# Altium integrated library ST Memory EEPROM Flash.IntLib: 1183 symbols (part 19 of 23)
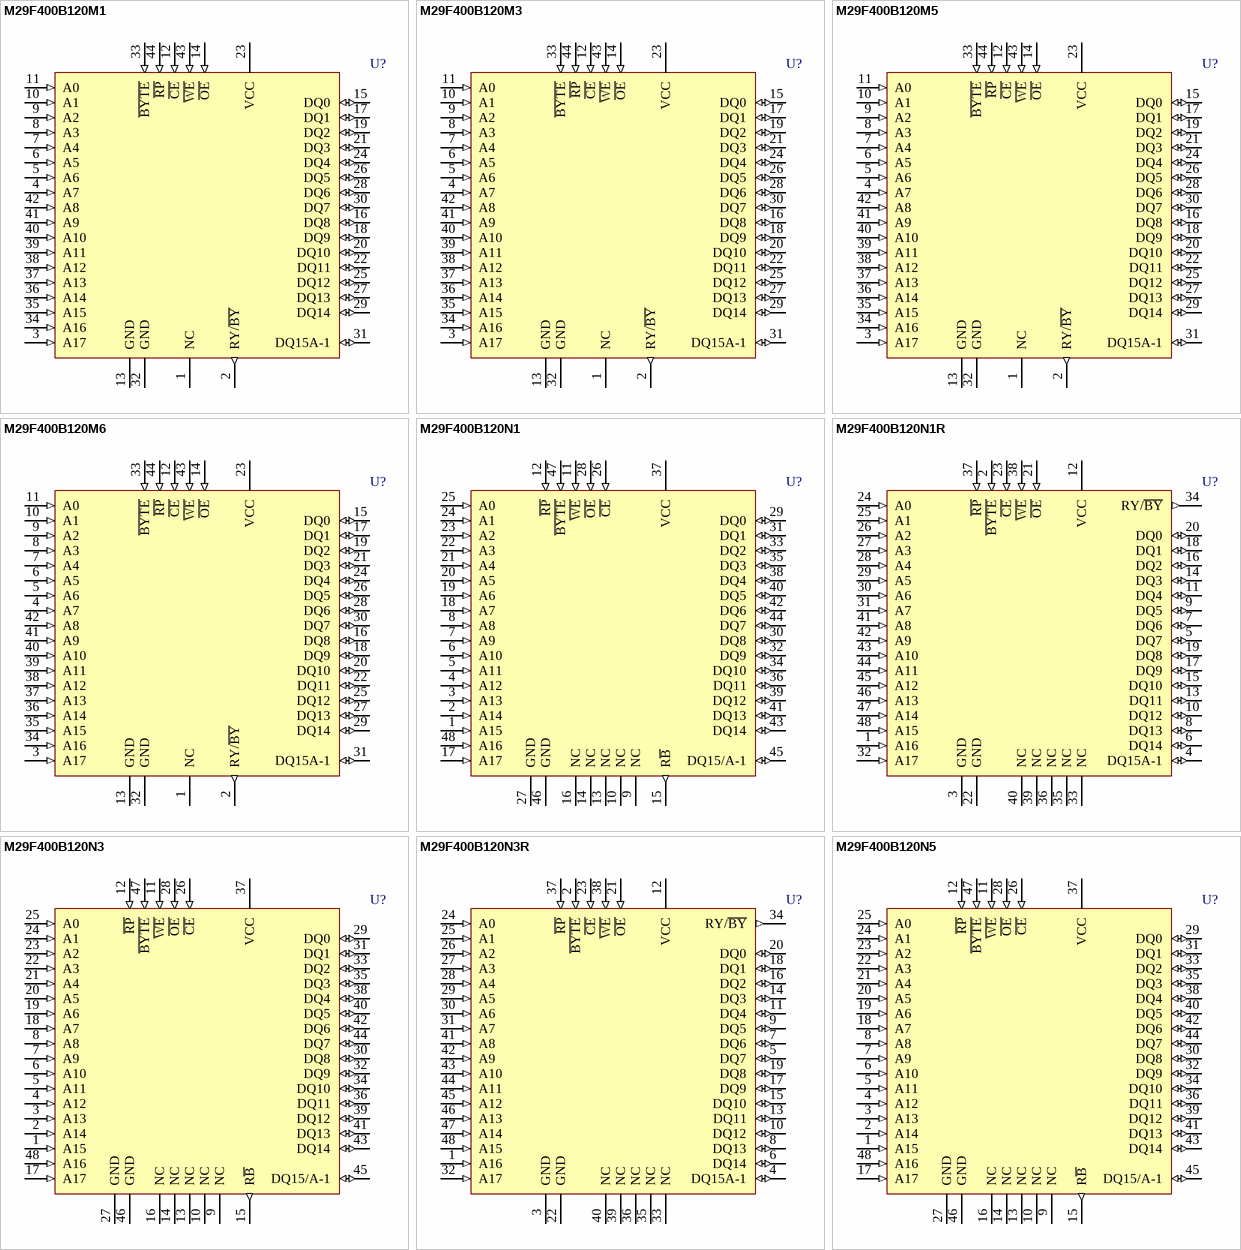
[diagram p99: symbols M29F400B120M1 to M29F400B120N5]

## M29F400B120M3
designator U?
4 Mbit (512Kb x8 or 256Kb x16, Boot Block) Single Supply Flash Memory; Published: 24-Aug-2001; LatestRevisionDate: 17-Jul-2002; LatestRevisionNote: Re-released for DXP Platform.; DatasheetDocument: Nov-1999; PackageReference: SO44; Publisher: Altium Limited
footprint SO44 (Small Outline, Plastic; 44 Leads; Body Width 13.3 mm; Pitch 1.27 mm)
pins: 1 NC, 2 RY/~{BY} (out), 3 A17 (in), 4 A7 (in), 5 A6 (in), 6 A5 (in), 7 A4 (in), 8 A3 (in), 9 A2 (in), 10 A1 (in), 11 A0 (in), 12 ~{CE} (in), 13 GND (power), 14 ~{OE} (in), 15 DQ0 (io), 16 DQ8 (io), 17 DQ1 (io), 18 DQ9 (io), 19 DQ2 (io), 20 DQ10 (io), 21 DQ3 (io), 22 DQ11 (io), 23 VCC (power), 24 DQ4 (io), 25 DQ12 (io), 26 DQ5 (io), 27 DQ13 (io), 28 DQ6 (io), 29 DQ14 (io), 30 DQ7 (io), 31 DQ15A-1 (io), 32 GND (power), 33 ~{BYTE} (in), 34 A16 (in), 35 A15 (in), 36 A14 (in), 37 A13 (in), 38 A12 (in), 39 A11 (in), 40 A10 (in), 41 A9 (in), 42 A8 (in), 43 ~{WE} (in), 44 ~{RP} (in)

## M29F400B120M5
designator U?
Single Supply 4 Mbit (x8/x16, Block Erase) Flash Memory; Published: 24-Aug-2001; LatestRevisionDate: 17-Jul-2002; LatestRevisionNote: Re-released for DXP Platform.; DatasheetDocument: Jul-1996; PackageReference: SO44; Publisher: Altium Limited
footprint SO44 (Small Outline, Plastic; 44 Leads; Body Width 13.3 mm; Pitch 1.27 mm)
pins: 1 NC, 2 RY/~{BY} (out), 3 A17 (in), 4 A7 (in), 5 A6 (in), 6 A5 (in), 7 A4 (in), 8 A3 (in), 9 A2 (in), 10 A1 (in), 11 A0 (in), 12 ~{CE} (in), 13 GND (power), 14 ~{OE} (in), 15 DQ0 (io), 16 DQ8 (io), 17 DQ1 (io), 18 DQ9 (io), 19 DQ2 (io), 20 DQ10 (io), 21 DQ3 (io), 22 DQ11 (io), 23 VCC (power), 24 DQ4 (io), 25 DQ12 (io), 26 DQ5 (io), 27 DQ13 (io), 28 DQ6 (io), 29 DQ14 (io), 30 DQ7 (io), 31 DQ15A-1 (io), 32 GND (power), 33 ~{BYTE} (in), 34 A16 (in), 35 A15 (in), 36 A14 (in), 37 A13 (in), 38 A12 (in), 39 A11 (in), 40 A10 (in), 41 A9 (in), 42 A8 (in), 43 ~{WE} (in), 44 ~{RP} (in)

## M29F400B120M6
designator U?
4 Mbit (512Kb x8 or 256Kb x16, Boot Block) Single Supply Flash Memory; Published: 24-Aug-2001; LatestRevisionDate: 17-Jul-2002; LatestRevisionNote: Re-released for DXP Platform.; DatasheetDocument: Nov-1999; PackageReference: SO44; Publisher: Altium Limited
footprint SO44 (Small Outline, Plastic; 44 Leads; Body Width 13.3 mm; Pitch 1.27 mm)
pins: 1 NC, 2 RY/~{BY} (out), 3 A17 (in), 4 A7 (in), 5 A6 (in), 6 A5 (in), 7 A4 (in), 8 A3 (in), 9 A2 (in), 10 A1 (in), 11 A0 (in), 12 ~{CE} (in), 13 GND (power), 14 ~{OE} (in), 15 DQ0 (io), 16 DQ8 (io), 17 DQ1 (io), 18 DQ9 (io), 19 DQ2 (io), 20 DQ10 (io), 21 DQ3 (io), 22 DQ11 (io), 23 VCC (power), 24 DQ4 (io), 25 DQ12 (io), 26 DQ5 (io), 27 DQ13 (io), 28 DQ6 (io), 29 DQ14 (io), 30 DQ7 (io), 31 DQ15A-1 (io), 32 GND (power), 33 ~{BYTE} (in), 34 A16 (in), 35 A15 (in), 36 A14 (in), 37 A13 (in), 38 A12 (in), 39 A11 (in), 40 A10 (in), 41 A9 (in), 42 A8 (in), 43 ~{WE} (in), 44 ~{RP} (in)

## M29F400B120N1
designator U?
4 Mbit (512Kb x8 or 256Kb x16, Boot Block) Single Supply Flash Memory; Published: 24-Aug-2001; LatestRevisionDate: 17-Jul-2002; LatestRevisionNote: Re-released for DXP Platform.; DatasheetDocument: Nov-1999; PackageDocument: Jul-1998; PackageReference: TSOP48; Publisher: Altium Limited; Code_JEDEC: MO-142-DD
footprint TSOP48 (Shrink Small Outline, Plastic, Thin; 48 Leads; Body Width 18.4 mm; Pitch 0.5 mm)
pins: 1 A15 (in), 2 A14 (in), 3 A13 (in), 4 A12 (in), 5 A11 (in), 6 A10 (in), 7 A9 (in), 8 A8 (in), 9 NC, 10 NC, 11 ~{WE} (in), 12 ~{RP} (in), 13 NC, 14 NC, 15 R~{B} (out), 16 NC, 17 A17 (in), 18 A7 (in), 19 A6 (in), 20 A5 (in), 21 A4 (in), 22 A3 (in), 23 A2 (in), 24 A1 (in), 25 A0 (in), 26 ~{CE} (in), 27 GND (power), 28 ~{OE} (in), 29 DQ0 (io), 30 DQ8 (io), 31 DQ1 (io), 32 DQ9 (io), 33 DQ2 (io), 34 DQ10 (io), 35 DQ3 (io), 36 DQ11 (io), 37 VCC (power), 38 DQ4 (io), 39 DQ12 (io), 40 DQ5 (io), 41 DQ13 (io), 42 DQ6 (io), 43 DQ14 (io), 44 DQ7 (io), 45 DQ15/A-1 (io), 46 GND (power), 47 ~{BYTE} (in), 48 A16 (in)

## M29F400B120N1R
designator U?
4 Mbit (512Kb x8 or 256Kb x16, Boot Block) Single Supply Flash Memory; Published: 24-Aug-2001; LatestRevisionDate: 17-Jul-2002; LatestRevisionNote: Re-released for DXP Platform.; DatasheetDocument: Nov-1999; PackageDocument: Jul-1998; PackageReference: TSOP48; Publisher: Altium Limited; Code_JEDEC: MO-142-DD
footprint TSOP48 (Shrink Small Outline, Plastic, Thin; 48 Leads; Body Width 18.4 mm; Pitch 0.5 mm)
pins: 1 A16 (in), 2 ~{BYTE} (in), 3 GND (power), 4 DQ15A-1 (io), 5 DQ7 (io), 6 DQ14 (io), 7 DQ6 (io), 8 DQ13 (io), 9 DQ5 (io), 10 DQ12 (io), 11 DQ4 (io), 12 VCC (power), 13 DQ11 (io), 14 DQ3 (io), 15 DQ10 (io), 16 DQ2 (io), 17 DQ9 (io), 18 DQ1 (io), 19 DQ8 (io), 20 DQ0 (io), 21 ~{OE} (in), 22 GND (power), 23 ~{CE} (in), 24 A0 (in), 25 A1 (in), 26 A2 (in), 27 A3 (in), 28 A4 (in), 29 A5 (in), 30 A6 (in), 31 A7 (in), 32 A17 (in), 33 NC, 34 RY/~{BY} (out), 35 NC, 36 NC, 37 ~{RP} (in), 38 ~{WE} (in), 39 NC, 40 NC, 41 A8 (in), 42 A9 (in), 43 A10 (in), 44 A11 (in), 45 A12 (in), 46 A13 (in), 47 A14 (in), 48 A15 (in)

## M29F400B120N3
designator U?
4 Mbit (512Kb x8 or 256Kb x16, Boot Block) Single Supply Flash Memory; Published: 24-Aug-2001; LatestRevisionDate: 17-Jul-2002; LatestRevisionNote: Re-released for DXP Platform.; DatasheetDocument: Nov-1999; PackageDocument: Jul-1998; PackageReference: TSOP48; Publisher: Altium Limited; Code_JEDEC: MO-142-DD
footprint TSOP48 (Shrink Small Outline, Plastic, Thin; 48 Leads; Body Width 18.4 mm; Pitch 0.5 mm)
pins: 1 A15 (in), 2 A14 (in), 3 A13 (in), 4 A12 (in), 5 A11 (in), 6 A10 (in), 7 A9 (in), 8 A8 (in), 9 NC, 10 NC, 11 ~{WE} (in), 12 ~{RP} (in), 13 NC, 14 NC, 15 R~{B} (out), 16 NC, 17 A17 (in), 18 A7 (in), 19 A6 (in), 20 A5 (in), 21 A4 (in), 22 A3 (in), 23 A2 (in), 24 A1 (in), 25 A0 (in), 26 ~{CE} (in), 27 GND (power), 28 ~{OE} (in), 29 DQ0 (io), 30 DQ8 (io), 31 DQ1 (io), 32 DQ9 (io), 33 DQ2 (io), 34 DQ10 (io), 35 DQ3 (io), 36 DQ11 (io), 37 VCC (power), 38 DQ4 (io), 39 DQ12 (io), 40 DQ5 (io), 41 DQ13 (io), 42 DQ6 (io), 43 DQ14 (io), 44 DQ7 (io), 45 DQ15/A-1 (io), 46 GND (power), 47 ~{BYTE} (in), 48 A16 (in)

## M29F400B120N3R
designator U?
4 Mbit (512Kb x8 or 256Kb x16, Boot Block) Single Supply Flash Memory; Published: 24-Aug-2001; LatestRevisionDate: 17-Jul-2002; LatestRevisionNote: Re-released for DXP Platform.; DatasheetDocument: Nov-1999; PackageDocument: Jul-1998; PackageReference: TSOP48; Publisher: Altium Limited; Code_JEDEC: MO-142-DD
footprint TSOP48 (Shrink Small Outline, Plastic, Thin; 48 Leads; Body Width 18.4 mm; Pitch 0.5 mm)
pins: 1 A16 (in), 2 ~{BYTE} (in), 3 GND (power), 4 DQ15A-1 (io), 5 DQ7 (io), 6 DQ14 (io), 7 DQ6 (io), 8 DQ13 (io), 9 DQ5 (io), 10 DQ12 (io), 11 DQ4 (io), 12 VCC (power), 13 DQ11 (io), 14 DQ3 (io), 15 DQ10 (io), 16 DQ2 (io), 17 DQ9 (io), 18 DQ1 (io), 19 DQ8 (io), 20 DQ0 (io), 21 ~{OE} (in), 22 GND (power), 23 ~{CE} (in), 24 A0 (in), 25 A1 (in), 26 A2 (in), 27 A3 (in), 28 A4 (in), 29 A5 (in), 30 A6 (in), 31 A7 (in), 32 A17 (in), 33 NC, 34 RY/~{BY} (out), 35 NC, 36 NC, 37 ~{RP} (in), 38 ~{WE} (in), 39 NC, 40 NC, 41 A8 (in), 42 A9 (in), 43 A10 (in), 44 A11 (in), 45 A12 (in), 46 A13 (in), 47 A14 (in), 48 A15 (in)

## M29F400B120N5
designator U?
Single Supply 4 Mbit (x8/x16, Block Erase) Flash Memory; Published: 24-Aug-2001; LatestRevisionDate: 17-Jul-2002; LatestRevisionNote: Re-released for DXP Platform.; DatasheetDocument: Jul-1996; PackageDocument: Jul-1998; PackageReference: TSOP48; Publisher: Altium Limited; Code_JEDEC: MO-142-DD
footprint TSOP48 (Shrink Small Outline, Plastic, Thin; 48 Leads; Body Width 18.4 mm; Pitch 0.5 mm)
pins: 1 A15 (in), 2 A14 (in), 3 A13 (in), 4 A12 (in), 5 A11 (in), 6 A10 (in), 7 A9 (in), 8 A8 (in), 9 NC, 10 NC, 11 ~{WE} (in), 12 ~{RP} (in), 13 NC, 14 NC, 15 R~{B} (out), 16 NC, 17 A17 (in), 18 A7 (in), 19 A6 (in), 20 A5 (in), 21 A4 (in), 22 A3 (in), 23 A2 (in), 24 A1 (in), 25 A0 (in), 26 ~{CE} (in), 27 GND (power), 28 ~{OE} (in), 29 DQ0 (io), 30 DQ8 (io), 31 DQ1 (io), 32 DQ9 (io), 33 DQ2 (io), 34 DQ10 (io), 35 DQ3 (io), 36 DQ11 (io), 37 VCC (power), 38 DQ4 (io), 39 DQ12 (io), 40 DQ5 (io), 41 DQ13 (io), 42 DQ6 (io), 43 DQ14 (io), 44 DQ7 (io), 45 DQ15/A-1 (io), 46 GND (power), 47 ~{BYTE} (in), 48 A16 (in)

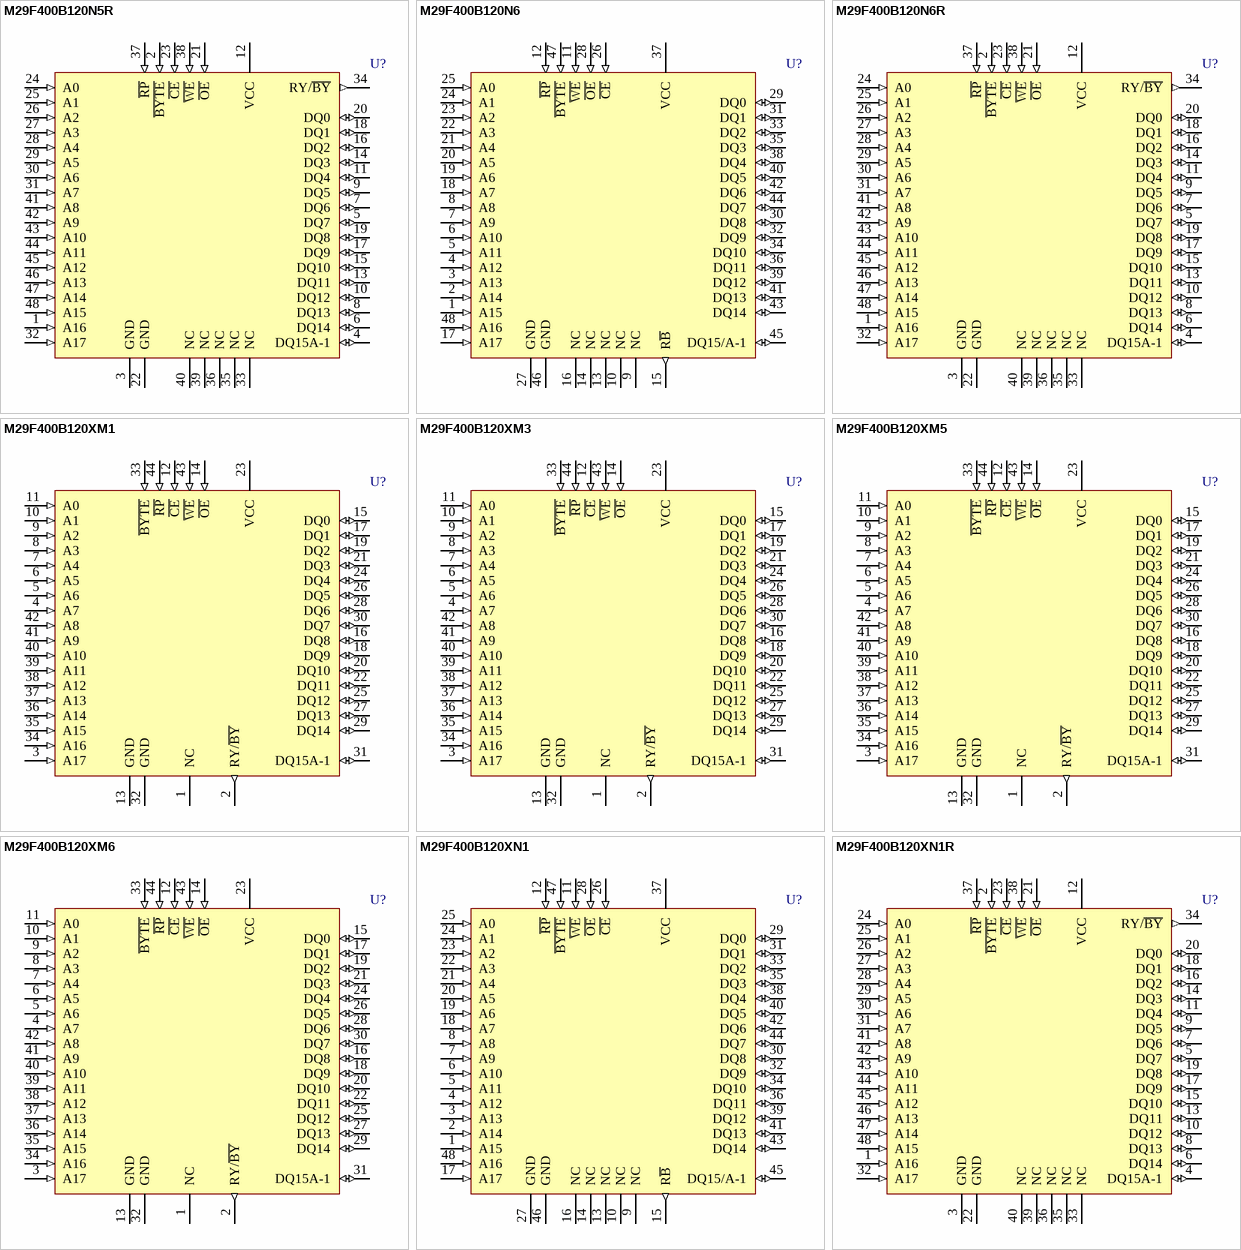
[diagram p64: symbols M29F400B120N5R to M29F400B120XN1R]

## M29F400B120N5R
designator U?
Single Supply 4 Mbit (x8/x16, Block Erase) Flash Memory; Published: 24-Aug-2001; LatestRevisionDate: 17-Jul-2002; LatestRevisionNote: Re-released for DXP Platform.; DatasheetDocument: Jul-1996; PackageDocument: Jul-1998; PackageReference: TSOP48; Publisher: Altium Limited; Code_JEDEC: MO-142-DD
footprint TSOP48 (Shrink Small Outline, Plastic, Thin; 48 Leads; Body Width 18.4 mm; Pitch 0.5 mm)
pins: 1 A16 (in), 2 ~{BYTE} (in), 3 GND (power), 4 DQ15A-1 (io), 5 DQ7 (io), 6 DQ14 (io), 7 DQ6 (io), 8 DQ13 (io), 9 DQ5 (io), 10 DQ12 (io), 11 DQ4 (io), 12 VCC (power), 13 DQ11 (io), 14 DQ3 (io), 15 DQ10 (io), 16 DQ2 (io), 17 DQ9 (io), 18 DQ1 (io), 19 DQ8 (io), 20 DQ0 (io), 21 ~{OE} (in), 22 GND (power), 23 ~{CE} (in), 24 A0 (in), 25 A1 (in), 26 A2 (in), 27 A3 (in), 28 A4 (in), 29 A5 (in), 30 A6 (in), 31 A7 (in), 32 A17 (in), 33 NC, 34 RY/~{BY} (out), 35 NC, 36 NC, 37 ~{RP} (in), 38 ~{WE} (in), 39 NC, 40 NC, 41 A8 (in), 42 A9 (in), 43 A10 (in), 44 A11 (in), 45 A12 (in), 46 A13 (in), 47 A14 (in), 48 A15 (in)

## M29F400B120N6
designator U?
4 Mbit (512Kb x8 or 256Kb x16, Boot Block) Single Supply Flash Memory; Published: 24-Aug-2001; LatestRevisionDate: 17-Jul-2002; LatestRevisionNote: Re-released for DXP Platform.; DatasheetDocument: Nov-1999; PackageDocument: Jul-1998; PackageReference: TSOP48; Publisher: Altium Limited; Code_JEDEC: MO-142-DD
footprint TSOP48 (Shrink Small Outline, Plastic, Thin; 48 Leads; Body Width 18.4 mm; Pitch 0.5 mm)
pins: 1 A15 (in), 2 A14 (in), 3 A13 (in), 4 A12 (in), 5 A11 (in), 6 A10 (in), 7 A9 (in), 8 A8 (in), 9 NC, 10 NC, 11 ~{WE} (in), 12 ~{RP} (in), 13 NC, 14 NC, 15 R~{B} (out), 16 NC, 17 A17 (in), 18 A7 (in), 19 A6 (in), 20 A5 (in), 21 A4 (in), 22 A3 (in), 23 A2 (in), 24 A1 (in), 25 A0 (in), 26 ~{CE} (in), 27 GND (power), 28 ~{OE} (in), 29 DQ0 (io), 30 DQ8 (io), 31 DQ1 (io), 32 DQ9 (io), 33 DQ2 (io), 34 DQ10 (io), 35 DQ3 (io), 36 DQ11 (io), 37 VCC (power), 38 DQ4 (io), 39 DQ12 (io), 40 DQ5 (io), 41 DQ13 (io), 42 DQ6 (io), 43 DQ14 (io), 44 DQ7 (io), 45 DQ15/A-1 (io), 46 GND (power), 47 ~{BYTE} (in), 48 A16 (in)

## M29F400B120N6R
designator U?
4 Mbit (512Kb x8 or 256Kb x16, Boot Block) Single Supply Flash Memory; Published: 24-Aug-2001; LatestRevisionDate: 17-Jul-2002; LatestRevisionNote: Re-released for DXP Platform.; DatasheetDocument: Nov-1999; PackageDocument: Jul-1998; PackageReference: TSOP48; Publisher: Altium Limited; Code_JEDEC: MO-142-DD
footprint TSOP48 (Shrink Small Outline, Plastic, Thin; 48 Leads; Body Width 18.4 mm; Pitch 0.5 mm)
pins: 1 A16 (in), 2 ~{BYTE} (in), 3 GND (power), 4 DQ15A-1 (io), 5 DQ7 (io), 6 DQ14 (io), 7 DQ6 (io), 8 DQ13 (io), 9 DQ5 (io), 10 DQ12 (io), 11 DQ4 (io), 12 VCC (power), 13 DQ11 (io), 14 DQ3 (io), 15 DQ10 (io), 16 DQ2 (io), 17 DQ9 (io), 18 DQ1 (io), 19 DQ8 (io), 20 DQ0 (io), 21 ~{OE} (in), 22 GND (power), 23 ~{CE} (in), 24 A0 (in), 25 A1 (in), 26 A2 (in), 27 A3 (in), 28 A4 (in), 29 A5 (in), 30 A6 (in), 31 A7 (in), 32 A17 (in), 33 NC, 34 RY/~{BY} (out), 35 NC, 36 NC, 37 ~{RP} (in), 38 ~{WE} (in), 39 NC, 40 NC, 41 A8 (in), 42 A9 (in), 43 A10 (in), 44 A11 (in), 45 A12 (in), 46 A13 (in), 47 A14 (in), 48 A15 (in)

## M29F400B120XM1
designator U?
Single Supply 4 Mbit (x8/x16, Block Erase) Flash Memory; Published: 24-Aug-2001; LatestRevisionDate: 17-Jul-2002; LatestRevisionNote: Re-released for DXP Platform.; DatasheetDocument: Jul-1996; PackageReference: SO44; Publisher: Altium Limited
footprint SO44 (Small Outline, Plastic; 44 Leads; Body Width 13.3 mm; Pitch 1.27 mm)
pins: 1 NC, 2 RY/~{BY} (out), 3 A17 (in), 4 A7 (in), 5 A6 (in), 6 A5 (in), 7 A4 (in), 8 A3 (in), 9 A2 (in), 10 A1 (in), 11 A0 (in), 12 ~{CE} (in), 13 GND (power), 14 ~{OE} (in), 15 DQ0 (io), 16 DQ8 (io), 17 DQ1 (io), 18 DQ9 (io), 19 DQ2 (io), 20 DQ10 (io), 21 DQ3 (io), 22 DQ11 (io), 23 VCC (power), 24 DQ4 (io), 25 DQ12 (io), 26 DQ5 (io), 27 DQ13 (io), 28 DQ6 (io), 29 DQ14 (io), 30 DQ7 (io), 31 DQ15A-1 (io), 32 GND (power), 33 ~{BYTE} (in), 34 A16 (in), 35 A15 (in), 36 A14 (in), 37 A13 (in), 38 A12 (in), 39 A11 (in), 40 A10 (in), 41 A9 (in), 42 A8 (in), 43 ~{WE} (in), 44 ~{RP} (in)

## M29F400B120XM3
designator U?
Single Supply 4 Mbit (x8/x16, Block Erase) Flash Memory; Published: 24-Aug-2001; LatestRevisionDate: 17-Jul-2002; LatestRevisionNote: Re-released for DXP Platform.; DatasheetDocument: Jul-1996; PackageReference: SO44; Publisher: Altium Limited
footprint SO44 (Small Outline, Plastic; 44 Leads; Body Width 13.3 mm; Pitch 1.27 mm)
pins: 1 NC, 2 RY/~{BY} (out), 3 A17 (in), 4 A7 (in), 5 A6 (in), 6 A5 (in), 7 A4 (in), 8 A3 (in), 9 A2 (in), 10 A1 (in), 11 A0 (in), 12 ~{CE} (in), 13 GND (power), 14 ~{OE} (in), 15 DQ0 (io), 16 DQ8 (io), 17 DQ1 (io), 18 DQ9 (io), 19 DQ2 (io), 20 DQ10 (io), 21 DQ3 (io), 22 DQ11 (io), 23 VCC (power), 24 DQ4 (io), 25 DQ12 (io), 26 DQ5 (io), 27 DQ13 (io), 28 DQ6 (io), 29 DQ14 (io), 30 DQ7 (io), 31 DQ15A-1 (io), 32 GND (power), 33 ~{BYTE} (in), 34 A16 (in), 35 A15 (in), 36 A14 (in), 37 A13 (in), 38 A12 (in), 39 A11 (in), 40 A10 (in), 41 A9 (in), 42 A8 (in), 43 ~{WE} (in), 44 ~{RP} (in)

## M29F400B120XM5
designator U?
Single Supply 4 Mbit (x8/x16, Block Erase) Flash Memory; Published: 24-Aug-2001; LatestRevisionDate: 17-Jul-2002; LatestRevisionNote: Re-released for DXP Platform.; DatasheetDocument: Jul-1996; PackageReference: SO44; Publisher: Altium Limited
footprint SO44 (Small Outline, Plastic; 44 Leads; Body Width 13.3 mm; Pitch 1.27 mm)
pins: 1 NC, 2 RY/~{BY} (out), 3 A17 (in), 4 A7 (in), 5 A6 (in), 6 A5 (in), 7 A4 (in), 8 A3 (in), 9 A2 (in), 10 A1 (in), 11 A0 (in), 12 ~{CE} (in), 13 GND (power), 14 ~{OE} (in), 15 DQ0 (io), 16 DQ8 (io), 17 DQ1 (io), 18 DQ9 (io), 19 DQ2 (io), 20 DQ10 (io), 21 DQ3 (io), 22 DQ11 (io), 23 VCC (power), 24 DQ4 (io), 25 DQ12 (io), 26 DQ5 (io), 27 DQ13 (io), 28 DQ6 (io), 29 DQ14 (io), 30 DQ7 (io), 31 DQ15A-1 (io), 32 GND (power), 33 ~{BYTE} (in), 34 A16 (in), 35 A15 (in), 36 A14 (in), 37 A13 (in), 38 A12 (in), 39 A11 (in), 40 A10 (in), 41 A9 (in), 42 A8 (in), 43 ~{WE} (in), 44 ~{RP} (in)

## M29F400B120XM6
designator U?
Single Supply 4 Mbit (x8/x16, Block Erase) Flash Memory; Published: 24-Aug-2001; LatestRevisionDate: 17-Jul-2002; LatestRevisionNote: Re-released for DXP Platform.; DatasheetDocument: Jul-1996; PackageReference: SO44; Publisher: Altium Limited
footprint SO44 (Small Outline, Plastic; 44 Leads; Body Width 13.3 mm; Pitch 1.27 mm)
pins: 1 NC, 2 RY/~{BY} (out), 3 A17 (in), 4 A7 (in), 5 A6 (in), 6 A5 (in), 7 A4 (in), 8 A3 (in), 9 A2 (in), 10 A1 (in), 11 A0 (in), 12 ~{CE} (in), 13 GND (power), 14 ~{OE} (in), 15 DQ0 (io), 16 DQ8 (io), 17 DQ1 (io), 18 DQ9 (io), 19 DQ2 (io), 20 DQ10 (io), 21 DQ3 (io), 22 DQ11 (io), 23 VCC (power), 24 DQ4 (io), 25 DQ12 (io), 26 DQ5 (io), 27 DQ13 (io), 28 DQ6 (io), 29 DQ14 (io), 30 DQ7 (io), 31 DQ15A-1 (io), 32 GND (power), 33 ~{BYTE} (in), 34 A16 (in), 35 A15 (in), 36 A14 (in), 37 A13 (in), 38 A12 (in), 39 A11 (in), 40 A10 (in), 41 A9 (in), 42 A8 (in), 43 ~{WE} (in), 44 ~{RP} (in)

## M29F400B120XN1
designator U?
Single Supply 4 Mbit (x8/x16, Block Erase) Flash Memory; Published: 24-Aug-2001; LatestRevisionDate: 17-Jul-2002; LatestRevisionNote: Re-released for DXP Platform.; DatasheetDocument: Jul-1996; PackageDocument: Jul-1998; PackageReference: TSOP48; Publisher: Altium Limited; Code_JEDEC: MO-142-DD
footprint TSOP48 (Shrink Small Outline, Plastic, Thin; 48 Leads; Body Width 18.4 mm; Pitch 0.5 mm)
pins: 1 A15 (in), 2 A14 (in), 3 A13 (in), 4 A12 (in), 5 A11 (in), 6 A10 (in), 7 A9 (in), 8 A8 (in), 9 NC, 10 NC, 11 ~{WE} (in), 12 ~{RP} (in), 13 NC, 14 NC, 15 R~{B} (out), 16 NC, 17 A17 (in), 18 A7 (in), 19 A6 (in), 20 A5 (in), 21 A4 (in), 22 A3 (in), 23 A2 (in), 24 A1 (in), 25 A0 (in), 26 ~{CE} (in), 27 GND (power), 28 ~{OE} (in), 29 DQ0 (io), 30 DQ8 (io), 31 DQ1 (io), 32 DQ9 (io), 33 DQ2 (io), 34 DQ10 (io), 35 DQ3 (io), 36 DQ11 (io), 37 VCC (power), 38 DQ4 (io), 39 DQ12 (io), 40 DQ5 (io), 41 DQ13 (io), 42 DQ6 (io), 43 DQ14 (io), 44 DQ7 (io), 45 DQ15/A-1 (io), 46 GND (power), 47 ~{BYTE} (in), 48 A16 (in)

## M29F400B120XN1R
designator U?
Single Supply 4 Mbit (x8/x16, Block Erase) Flash Memory; Published: 24-Aug-2001; LatestRevisionDate: 17-Jul-2002; LatestRevisionNote: Re-released for DXP Platform.; DatasheetDocument: Jul-1996; PackageDocument: Jul-1998; PackageReference: TSOP48; Publisher: Altium Limited; Code_JEDEC: MO-142-DD
footprint TSOP48 (Shrink Small Outline, Plastic, Thin; 48 Leads; Body Width 18.4 mm; Pitch 0.5 mm)
pins: 1 A16 (in), 2 ~{BYTE} (in), 3 GND (power), 4 DQ15A-1 (io), 5 DQ7 (io), 6 DQ14 (io), 7 DQ6 (io), 8 DQ13 (io), 9 DQ5 (io), 10 DQ12 (io), 11 DQ4 (io), 12 VCC (power), 13 DQ11 (io), 14 DQ3 (io), 15 DQ10 (io), 16 DQ2 (io), 17 DQ9 (io), 18 DQ1 (io), 19 DQ8 (io), 20 DQ0 (io), 21 ~{OE} (in), 22 GND (power), 23 ~{CE} (in), 24 A0 (in), 25 A1 (in), 26 A2 (in), 27 A3 (in), 28 A4 (in), 29 A5 (in), 30 A6 (in), 31 A7 (in), 32 A17 (in), 33 NC, 34 RY/~{BY} (out), 35 NC, 36 NC, 37 ~{RP} (in), 38 ~{WE} (in), 39 NC, 40 NC, 41 A8 (in), 42 A9 (in), 43 A10 (in), 44 A11 (in), 45 A12 (in), 46 A13 (in), 47 A14 (in), 48 A15 (in)

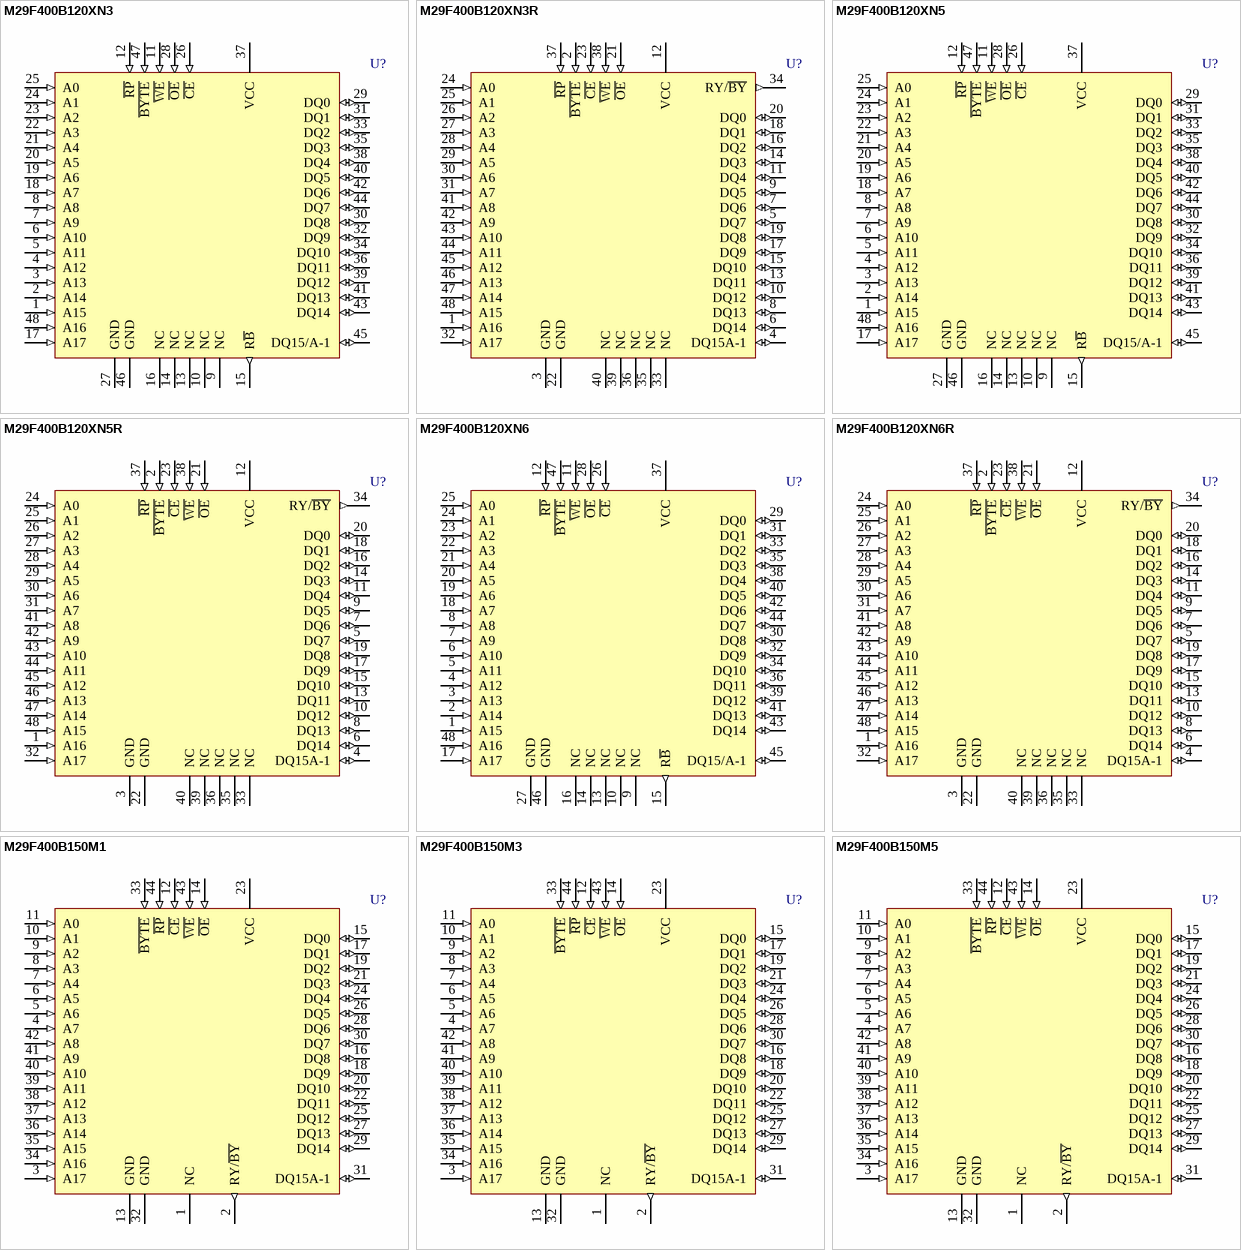
[diagram p65: symbols M29F400B120XN3 to M29F400B150M5]

## M29F400B120XN3
designator U?
Single Supply 4 Mbit (x8/x16, Block Erase) Flash Memory; Published: 24-Aug-2001; LatestRevisionDate: 17-Jul-2002; LatestRevisionNote: Re-released for DXP Platform.; DatasheetDocument: Jul-1996; PackageDocument: Jul-1998; PackageReference: TSOP48; Publisher: Altium Limited; Code_JEDEC: MO-142-DD
footprint TSOP48 (Shrink Small Outline, Plastic, Thin; 48 Leads; Body Width 18.4 mm; Pitch 0.5 mm)
pins: 1 A15 (in), 2 A14 (in), 3 A13 (in), 4 A12 (in), 5 A11 (in), 6 A10 (in), 7 A9 (in), 8 A8 (in), 9 NC, 10 NC, 11 ~{WE} (in), 12 ~{RP} (in), 13 NC, 14 NC, 15 R~{B} (out), 16 NC, 17 A17 (in), 18 A7 (in), 19 A6 (in), 20 A5 (in), 21 A4 (in), 22 A3 (in), 23 A2 (in), 24 A1 (in), 25 A0 (in), 26 ~{CE} (in), 27 GND (power), 28 ~{OE} (in), 29 DQ0 (io), 30 DQ8 (io), 31 DQ1 (io), 32 DQ9 (io), 33 DQ2 (io), 34 DQ10 (io), 35 DQ3 (io), 36 DQ11 (io), 37 VCC (power), 38 DQ4 (io), 39 DQ12 (io), 40 DQ5 (io), 41 DQ13 (io), 42 DQ6 (io), 43 DQ14 (io), 44 DQ7 (io), 45 DQ15/A-1 (io), 46 GND (power), 47 ~{BYTE} (in), 48 A16 (in)

## M29F400B120XN3R
designator U?
Single Supply 4 Mbit (x8/x16, Block Erase) Flash Memory; Published: 24-Aug-2001; LatestRevisionDate: 17-Jul-2002; LatestRevisionNote: Re-released for DXP Platform.; DatasheetDocument: Jul-1996; PackageDocument: Jul-1998; PackageReference: TSOP48; Publisher: Altium Limited; Code_JEDEC: MO-142-DD
footprint TSOP48 (Shrink Small Outline, Plastic, Thin; 48 Leads; Body Width 18.4 mm; Pitch 0.5 mm)
pins: 1 A16 (in), 2 ~{BYTE} (in), 3 GND (power), 4 DQ15A-1 (io), 5 DQ7 (io), 6 DQ14 (io), 7 DQ6 (io), 8 DQ13 (io), 9 DQ5 (io), 10 DQ12 (io), 11 DQ4 (io), 12 VCC (power), 13 DQ11 (io), 14 DQ3 (io), 15 DQ10 (io), 16 DQ2 (io), 17 DQ9 (io), 18 DQ1 (io), 19 DQ8 (io), 20 DQ0 (io), 21 ~{OE} (in), 22 GND (power), 23 ~{CE} (in), 24 A0 (in), 25 A1 (in), 26 A2 (in), 27 A3 (in), 28 A4 (in), 29 A5 (in), 30 A6 (in), 31 A7 (in), 32 A17 (in), 33 NC, 34 RY/~{BY} (out), 35 NC, 36 NC, 37 ~{RP} (in), 38 ~{WE} (in), 39 NC, 40 NC, 41 A8 (in), 42 A9 (in), 43 A10 (in), 44 A11 (in), 45 A12 (in), 46 A13 (in), 47 A14 (in), 48 A15 (in)

## M29F400B120XN5
designator U?
Single Supply 4 Mbit (x8/x16, Block Erase) Flash Memory; Published: 24-Aug-2001; LatestRevisionDate: 17-Jul-2002; LatestRevisionNote: Re-released for DXP Platform.; DatasheetDocument: Jul-1996; PackageDocument: Jul-1998; PackageReference: TSOP48; Publisher: Altium Limited; Code_JEDEC: MO-142-DD
footprint TSOP48 (Shrink Small Outline, Plastic, Thin; 48 Leads; Body Width 18.4 mm; Pitch 0.5 mm)
pins: 1 A15 (in), 2 A14 (in), 3 A13 (in), 4 A12 (in), 5 A11 (in), 6 A10 (in), 7 A9 (in), 8 A8 (in), 9 NC, 10 NC, 11 ~{WE} (in), 12 ~{RP} (in), 13 NC, 14 NC, 15 R~{B} (out), 16 NC, 17 A17 (in), 18 A7 (in), 19 A6 (in), 20 A5 (in), 21 A4 (in), 22 A3 (in), 23 A2 (in), 24 A1 (in), 25 A0 (in), 26 ~{CE} (in), 27 GND (power), 28 ~{OE} (in), 29 DQ0 (io), 30 DQ8 (io), 31 DQ1 (io), 32 DQ9 (io), 33 DQ2 (io), 34 DQ10 (io), 35 DQ3 (io), 36 DQ11 (io), 37 VCC (power), 38 DQ4 (io), 39 DQ12 (io), 40 DQ5 (io), 41 DQ13 (io), 42 DQ6 (io), 43 DQ14 (io), 44 DQ7 (io), 45 DQ15/A-1 (io), 46 GND (power), 47 ~{BYTE} (in), 48 A16 (in)

## M29F400B120XN5R
designator U?
Single Supply 4 Mbit (x8/x16, Block Erase) Flash Memory; Published: 24-Aug-2001; LatestRevisionDate: 17-Jul-2002; LatestRevisionNote: Re-released for DXP Platform.; DatasheetDocument: Jul-1996; PackageDocument: Jul-1998; PackageReference: TSOP48; Publisher: Altium Limited; Code_JEDEC: MO-142-DD
footprint TSOP48 (Shrink Small Outline, Plastic, Thin; 48 Leads; Body Width 18.4 mm; Pitch 0.5 mm)
pins: 1 A16 (in), 2 ~{BYTE} (in), 3 GND (power), 4 DQ15A-1 (io), 5 DQ7 (io), 6 DQ14 (io), 7 DQ6 (io), 8 DQ13 (io), 9 DQ5 (io), 10 DQ12 (io), 11 DQ4 (io), 12 VCC (power), 13 DQ11 (io), 14 DQ3 (io), 15 DQ10 (io), 16 DQ2 (io), 17 DQ9 (io), 18 DQ1 (io), 19 DQ8 (io), 20 DQ0 (io), 21 ~{OE} (in), 22 GND (power), 23 ~{CE} (in), 24 A0 (in), 25 A1 (in), 26 A2 (in), 27 A3 (in), 28 A4 (in), 29 A5 (in), 30 A6 (in), 31 A7 (in), 32 A17 (in), 33 NC, 34 RY/~{BY} (out), 35 NC, 36 NC, 37 ~{RP} (in), 38 ~{WE} (in), 39 NC, 40 NC, 41 A8 (in), 42 A9 (in), 43 A10 (in), 44 A11 (in), 45 A12 (in), 46 A13 (in), 47 A14 (in), 48 A15 (in)

## M29F400B120XN6
designator U?
Single Supply 4 Mbit (x8/x16, Block Erase) Flash Memory; Published: 24-Aug-2001; LatestRevisionDate: 17-Jul-2002; LatestRevisionNote: Re-released for DXP Platform.; DatasheetDocument: Jul-1996; PackageDocument: Jul-1998; PackageReference: TSOP48; Publisher: Altium Limited; Code_JEDEC: MO-142-DD
footprint TSOP48 (Shrink Small Outline, Plastic, Thin; 48 Leads; Body Width 18.4 mm; Pitch 0.5 mm)
pins: 1 A15 (in), 2 A14 (in), 3 A13 (in), 4 A12 (in), 5 A11 (in), 6 A10 (in), 7 A9 (in), 8 A8 (in), 9 NC, 10 NC, 11 ~{WE} (in), 12 ~{RP} (in), 13 NC, 14 NC, 15 R~{B} (out), 16 NC, 17 A17 (in), 18 A7 (in), 19 A6 (in), 20 A5 (in), 21 A4 (in), 22 A3 (in), 23 A2 (in), 24 A1 (in), 25 A0 (in), 26 ~{CE} (in), 27 GND (power), 28 ~{OE} (in), 29 DQ0 (io), 30 DQ8 (io), 31 DQ1 (io), 32 DQ9 (io), 33 DQ2 (io), 34 DQ10 (io), 35 DQ3 (io), 36 DQ11 (io), 37 VCC (power), 38 DQ4 (io), 39 DQ12 (io), 40 DQ5 (io), 41 DQ13 (io), 42 DQ6 (io), 43 DQ14 (io), 44 DQ7 (io), 45 DQ15/A-1 (io), 46 GND (power), 47 ~{BYTE} (in), 48 A16 (in)

## M29F400B120XN6R
designator U?
Single Supply 4 Mbit (x8/x16, Block Erase) Flash Memory; Published: 24-Aug-2001; LatestRevisionDate: 17-Jul-2002; LatestRevisionNote: Re-released for DXP Platform.; DatasheetDocument: Jul-1996; PackageDocument: Jul-1998; PackageReference: TSOP48; Publisher: Altium Limited; Code_JEDEC: MO-142-DD
footprint TSOP48 (Shrink Small Outline, Plastic, Thin; 48 Leads; Body Width 18.4 mm; Pitch 0.5 mm)
pins: 1 A16 (in), 2 ~{BYTE} (in), 3 GND (power), 4 DQ15A-1 (io), 5 DQ7 (io), 6 DQ14 (io), 7 DQ6 (io), 8 DQ13 (io), 9 DQ5 (io), 10 DQ12 (io), 11 DQ4 (io), 12 VCC (power), 13 DQ11 (io), 14 DQ3 (io), 15 DQ10 (io), 16 DQ2 (io), 17 DQ9 (io), 18 DQ1 (io), 19 DQ8 (io), 20 DQ0 (io), 21 ~{OE} (in), 22 GND (power), 23 ~{CE} (in), 24 A0 (in), 25 A1 (in), 26 A2 (in), 27 A3 (in), 28 A4 (in), 29 A5 (in), 30 A6 (in), 31 A7 (in), 32 A17 (in), 33 NC, 34 RY/~{BY} (out), 35 NC, 36 NC, 37 ~{RP} (in), 38 ~{WE} (in), 39 NC, 40 NC, 41 A8 (in), 42 A9 (in), 43 A10 (in), 44 A11 (in), 45 A12 (in), 46 A13 (in), 47 A14 (in), 48 A15 (in)

## M29F400B150M1
designator U?
Single Supply 4 Mbit (x8/x16, Block Erase) Flash Memory; Published: 24-Aug-2001; LatestRevisionDate: 17-Jul-2002; LatestRevisionNote: Re-released for DXP Platform.; DatasheetDocument: Jul-1996; PackageReference: SO44; Publisher: Altium Limited
footprint SO44 (Small Outline, Plastic; 44 Leads; Body Width 13.3 mm; Pitch 1.27 mm)
pins: 1 NC, 2 RY/~{BY} (out), 3 A17 (in), 4 A7 (in), 5 A6 (in), 6 A5 (in), 7 A4 (in), 8 A3 (in), 9 A2 (in), 10 A1 (in), 11 A0 (in), 12 ~{CE} (in), 13 GND (power), 14 ~{OE} (in), 15 DQ0 (io), 16 DQ8 (io), 17 DQ1 (io), 18 DQ9 (io), 19 DQ2 (io), 20 DQ10 (io), 21 DQ3 (io), 22 DQ11 (io), 23 VCC (power), 24 DQ4 (io), 25 DQ12 (io), 26 DQ5 (io), 27 DQ13 (io), 28 DQ6 (io), 29 DQ14 (io), 30 DQ7 (io), 31 DQ15A-1 (io), 32 GND (power), 33 ~{BYTE} (in), 34 A16 (in), 35 A15 (in), 36 A14 (in), 37 A13 (in), 38 A12 (in), 39 A11 (in), 40 A10 (in), 41 A9 (in), 42 A8 (in), 43 ~{WE} (in), 44 ~{RP} (in)

## M29F400B150M3
designator U?
Single Supply 4 Mbit (x8/x16, Block Erase) Flash Memory; Published: 24-Aug-2001; LatestRevisionDate: 17-Jul-2002; LatestRevisionNote: Re-released for DXP Platform.; DatasheetDocument: Jul-1996; PackageReference: SO44; Publisher: Altium Limited
footprint SO44 (Small Outline, Plastic; 44 Leads; Body Width 13.3 mm; Pitch 1.27 mm)
pins: 1 NC, 2 RY/~{BY} (out), 3 A17 (in), 4 A7 (in), 5 A6 (in), 6 A5 (in), 7 A4 (in), 8 A3 (in), 9 A2 (in), 10 A1 (in), 11 A0 (in), 12 ~{CE} (in), 13 GND (power), 14 ~{OE} (in), 15 DQ0 (io), 16 DQ8 (io), 17 DQ1 (io), 18 DQ9 (io), 19 DQ2 (io), 20 DQ10 (io), 21 DQ3 (io), 22 DQ11 (io), 23 VCC (power), 24 DQ4 (io), 25 DQ12 (io), 26 DQ5 (io), 27 DQ13 (io), 28 DQ6 (io), 29 DQ14 (io), 30 DQ7 (io), 31 DQ15A-1 (io), 32 GND (power), 33 ~{BYTE} (in), 34 A16 (in), 35 A15 (in), 36 A14 (in), 37 A13 (in), 38 A12 (in), 39 A11 (in), 40 A10 (in), 41 A9 (in), 42 A8 (in), 43 ~{WE} (in), 44 ~{RP} (in)

## M29F400B150M5
designator U?
Single Supply 4 Mbit (x8/x16, Block Erase) Flash Memory; Published: 24-Aug-2001; LatestRevisionDate: 17-Jul-2002; LatestRevisionNote: Re-released for DXP Platform.; DatasheetDocument: Jul-1996; PackageReference: SO44; Publisher: Altium Limited
footprint SO44 (Small Outline, Plastic; 44 Leads; Body Width 13.3 mm; Pitch 1.27 mm)
pins: 1 NC, 2 RY/~{BY} (out), 3 A17 (in), 4 A7 (in), 5 A6 (in), 6 A5 (in), 7 A4 (in), 8 A3 (in), 9 A2 (in), 10 A1 (in), 11 A0 (in), 12 ~{CE} (in), 13 GND (power), 14 ~{OE} (in), 15 DQ0 (io), 16 DQ8 (io), 17 DQ1 (io), 18 DQ9 (io), 19 DQ2 (io), 20 DQ10 (io), 21 DQ3 (io), 22 DQ11 (io), 23 VCC (power), 24 DQ4 (io), 25 DQ12 (io), 26 DQ5 (io), 27 DQ13 (io), 28 DQ6 (io), 29 DQ14 (io), 30 DQ7 (io), 31 DQ15A-1 (io), 32 GND (power), 33 ~{BYTE} (in), 34 A16 (in), 35 A15 (in), 36 A14 (in), 37 A13 (in), 38 A12 (in), 39 A11 (in), 40 A10 (in), 41 A9 (in), 42 A8 (in), 43 ~{WE} (in), 44 ~{RP} (in)

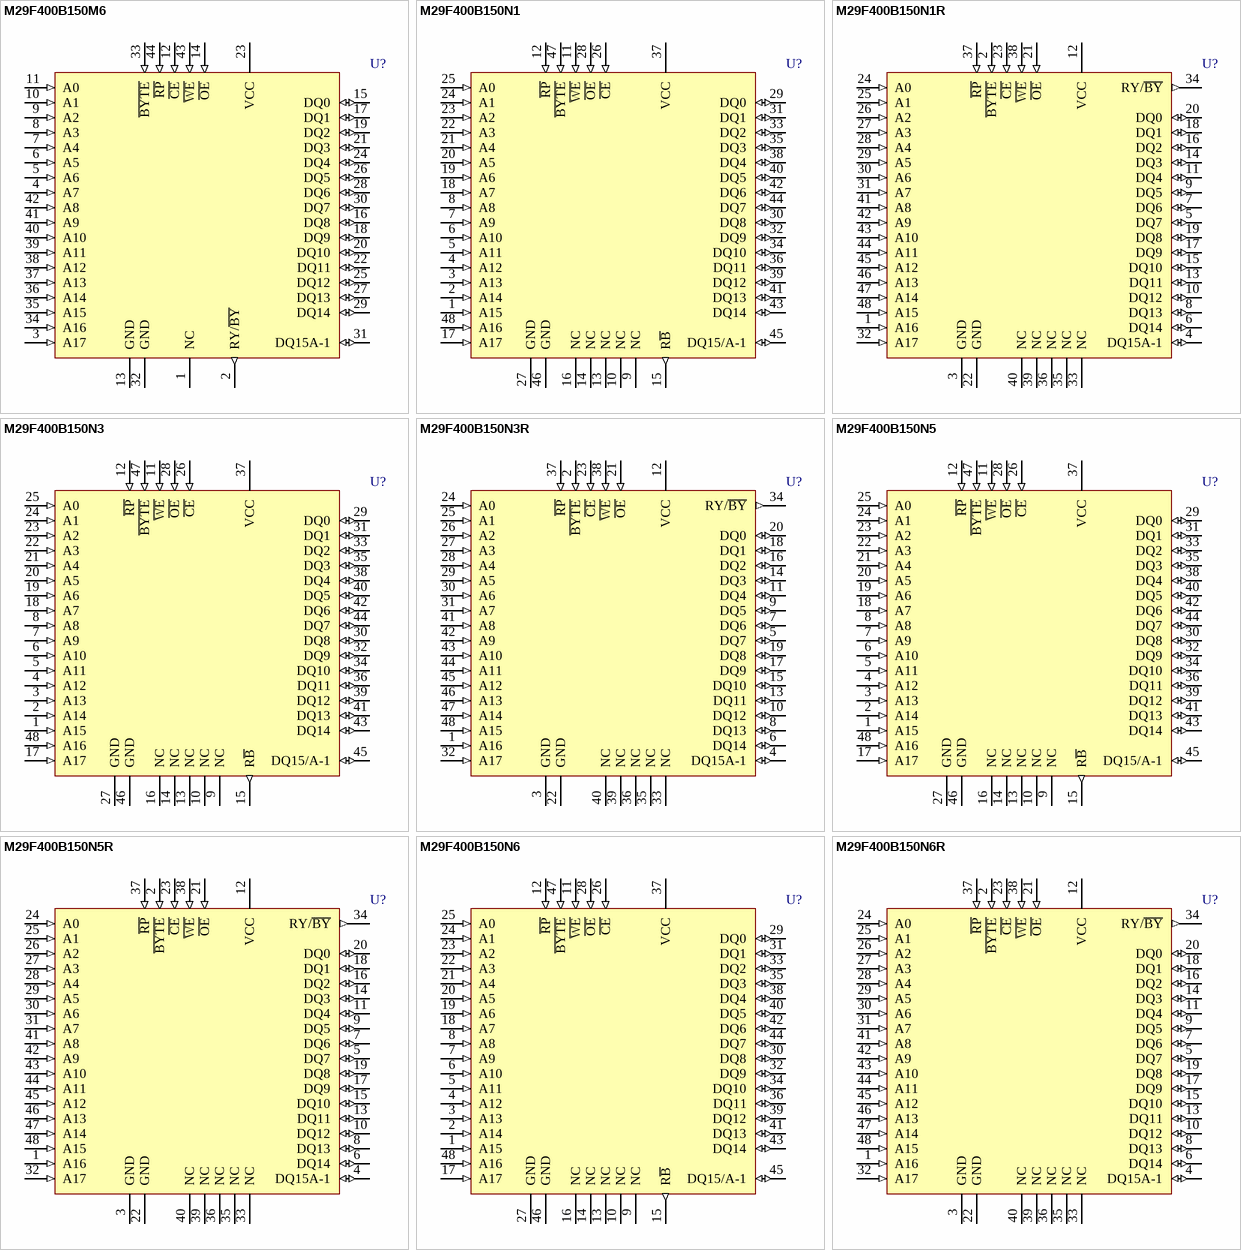
[diagram p66: symbols M29F400B150M6 to M29F400B150N6R]

## M29F400B150M6
designator U?
Single Supply 4 Mbit (x8/x16, Block Erase) Flash Memory; Published: 24-Aug-2001; LatestRevisionDate: 17-Jul-2002; LatestRevisionNote: Re-released for DXP Platform.; DatasheetDocument: Jul-1996; PackageReference: SO44; Publisher: Altium Limited
footprint SO44 (Small Outline, Plastic; 44 Leads; Body Width 13.3 mm; Pitch 1.27 mm)
pins: 1 NC, 2 RY/~{BY} (out), 3 A17 (in), 4 A7 (in), 5 A6 (in), 6 A5 (in), 7 A4 (in), 8 A3 (in), 9 A2 (in), 10 A1 (in), 11 A0 (in), 12 ~{CE} (in), 13 GND (power), 14 ~{OE} (in), 15 DQ0 (io), 16 DQ8 (io), 17 DQ1 (io), 18 DQ9 (io), 19 DQ2 (io), 20 DQ10 (io), 21 DQ3 (io), 22 DQ11 (io), 23 VCC (power), 24 DQ4 (io), 25 DQ12 (io), 26 DQ5 (io), 27 DQ13 (io), 28 DQ6 (io), 29 DQ14 (io), 30 DQ7 (io), 31 DQ15A-1 (io), 32 GND (power), 33 ~{BYTE} (in), 34 A16 (in), 35 A15 (in), 36 A14 (in), 37 A13 (in), 38 A12 (in), 39 A11 (in), 40 A10 (in), 41 A9 (in), 42 A8 (in), 43 ~{WE} (in), 44 ~{RP} (in)

## M29F400B150N1
designator U?
Single Supply 4 Mbit (x8/x16, Block Erase) Flash Memory; Published: 24-Aug-2001; LatestRevisionDate: 17-Jul-2002; LatestRevisionNote: Re-released for DXP Platform.; DatasheetDocument: Jul-1996; PackageDocument: Jul-1998; PackageReference: TSOP48; Publisher: Altium Limited; Code_JEDEC: MO-142-DD
footprint TSOP48 (Shrink Small Outline, Plastic, Thin; 48 Leads; Body Width 18.4 mm; Pitch 0.5 mm)
pins: 1 A15 (in), 2 A14 (in), 3 A13 (in), 4 A12 (in), 5 A11 (in), 6 A10 (in), 7 A9 (in), 8 A8 (in), 9 NC, 10 NC, 11 ~{WE} (in), 12 ~{RP} (in), 13 NC, 14 NC, 15 R~{B} (out), 16 NC, 17 A17 (in), 18 A7 (in), 19 A6 (in), 20 A5 (in), 21 A4 (in), 22 A3 (in), 23 A2 (in), 24 A1 (in), 25 A0 (in), 26 ~{CE} (in), 27 GND (power), 28 ~{OE} (in), 29 DQ0 (io), 30 DQ8 (io), 31 DQ1 (io), 32 DQ9 (io), 33 DQ2 (io), 34 DQ10 (io), 35 DQ3 (io), 36 DQ11 (io), 37 VCC (power), 38 DQ4 (io), 39 DQ12 (io), 40 DQ5 (io), 41 DQ13 (io), 42 DQ6 (io), 43 DQ14 (io), 44 DQ7 (io), 45 DQ15/A-1 (io), 46 GND (power), 47 ~{BYTE} (in), 48 A16 (in)

## M29F400B150N1R
designator U?
Single Supply 4 Mbit (x8/x16, Block Erase) Flash Memory; Published: 24-Aug-2001; LatestRevisionDate: 17-Jul-2002; LatestRevisionNote: Re-released for DXP Platform.; DatasheetDocument: Jul-1996; PackageDocument: Jul-1998; PackageReference: TSOP48; Publisher: Altium Limited; Code_JEDEC: MO-142-DD
footprint TSOP48 (Shrink Small Outline, Plastic, Thin; 48 Leads; Body Width 18.4 mm; Pitch 0.5 mm)
pins: 1 A16 (in), 2 ~{BYTE} (in), 3 GND (power), 4 DQ15A-1 (io), 5 DQ7 (io), 6 DQ14 (io), 7 DQ6 (io), 8 DQ13 (io), 9 DQ5 (io), 10 DQ12 (io), 11 DQ4 (io), 12 VCC (power), 13 DQ11 (io), 14 DQ3 (io), 15 DQ10 (io), 16 DQ2 (io), 17 DQ9 (io), 18 DQ1 (io), 19 DQ8 (io), 20 DQ0 (io), 21 ~{OE} (in), 22 GND (power), 23 ~{CE} (in), 24 A0 (in), 25 A1 (in), 26 A2 (in), 27 A3 (in), 28 A4 (in), 29 A5 (in), 30 A6 (in), 31 A7 (in), 32 A17 (in), 33 NC, 34 RY/~{BY} (out), 35 NC, 36 NC, 37 ~{RP} (in), 38 ~{WE} (in), 39 NC, 40 NC, 41 A8 (in), 42 A9 (in), 43 A10 (in), 44 A11 (in), 45 A12 (in), 46 A13 (in), 47 A14 (in), 48 A15 (in)

## M29F400B150N3
designator U?
Single Supply 4 Mbit (x8/x16, Block Erase) Flash Memory; Published: 24-Aug-2001; LatestRevisionDate: 17-Jul-2002; LatestRevisionNote: Re-released for DXP Platform.; DatasheetDocument: Jul-1996; PackageDocument: Jul-1998; PackageReference: TSOP48; Publisher: Altium Limited; Code_JEDEC: MO-142-DD
footprint TSOP48 (Shrink Small Outline, Plastic, Thin; 48 Leads; Body Width 18.4 mm; Pitch 0.5 mm)
pins: 1 A15 (in), 2 A14 (in), 3 A13 (in), 4 A12 (in), 5 A11 (in), 6 A10 (in), 7 A9 (in), 8 A8 (in), 9 NC, 10 NC, 11 ~{WE} (in), 12 ~{RP} (in), 13 NC, 14 NC, 15 R~{B} (out), 16 NC, 17 A17 (in), 18 A7 (in), 19 A6 (in), 20 A5 (in), 21 A4 (in), 22 A3 (in), 23 A2 (in), 24 A1 (in), 25 A0 (in), 26 ~{CE} (in), 27 GND (power), 28 ~{OE} (in), 29 DQ0 (io), 30 DQ8 (io), 31 DQ1 (io), 32 DQ9 (io), 33 DQ2 (io), 34 DQ10 (io), 35 DQ3 (io), 36 DQ11 (io), 37 VCC (power), 38 DQ4 (io), 39 DQ12 (io), 40 DQ5 (io), 41 DQ13 (io), 42 DQ6 (io), 43 DQ14 (io), 44 DQ7 (io), 45 DQ15/A-1 (io), 46 GND (power), 47 ~{BYTE} (in), 48 A16 (in)

## M29F400B150N3R
designator U?
Single Supply 4 Mbit (x8/x16, Block Erase) Flash Memory; Published: 24-Aug-2001; LatestRevisionDate: 17-Jul-2002; LatestRevisionNote: Re-released for DXP Platform.; DatasheetDocument: Jul-1996; PackageDocument: Jul-1998; PackageReference: TSOP48; Publisher: Altium Limited; Code_JEDEC: MO-142-DD
footprint TSOP48 (Shrink Small Outline, Plastic, Thin; 48 Leads; Body Width 18.4 mm; Pitch 0.5 mm)
pins: 1 A16 (in), 2 ~{BYTE} (in), 3 GND (power), 4 DQ15A-1 (io), 5 DQ7 (io), 6 DQ14 (io), 7 DQ6 (io), 8 DQ13 (io), 9 DQ5 (io), 10 DQ12 (io), 11 DQ4 (io), 12 VCC (power), 13 DQ11 (io), 14 DQ3 (io), 15 DQ10 (io), 16 DQ2 (io), 17 DQ9 (io), 18 DQ1 (io), 19 DQ8 (io), 20 DQ0 (io), 21 ~{OE} (in), 22 GND (power), 23 ~{CE} (in), 24 A0 (in), 25 A1 (in), 26 A2 (in), 27 A3 (in), 28 A4 (in), 29 A5 (in), 30 A6 (in), 31 A7 (in), 32 A17 (in), 33 NC, 34 RY/~{BY} (out), 35 NC, 36 NC, 37 ~{RP} (in), 38 ~{WE} (in), 39 NC, 40 NC, 41 A8 (in), 42 A9 (in), 43 A10 (in), 44 A11 (in), 45 A12 (in), 46 A13 (in), 47 A14 (in), 48 A15 (in)

## M29F400B150N5
designator U?
Single Supply 4 Mbit (x8/x16, Block Erase) Flash Memory; Published: 24-Aug-2001; LatestRevisionDate: 17-Jul-2002; LatestRevisionNote: Re-released for DXP Platform.; DatasheetDocument: Jul-1996; PackageDocument: Jul-1998; PackageReference: TSOP48; Publisher: Altium Limited; Code_JEDEC: MO-142-DD
footprint TSOP48 (Shrink Small Outline, Plastic, Thin; 48 Leads; Body Width 18.4 mm; Pitch 0.5 mm)
pins: 1 A15 (in), 2 A14 (in), 3 A13 (in), 4 A12 (in), 5 A11 (in), 6 A10 (in), 7 A9 (in), 8 A8 (in), 9 NC, 10 NC, 11 ~{WE} (in), 12 ~{RP} (in), 13 NC, 14 NC, 15 R~{B} (out), 16 NC, 17 A17 (in), 18 A7 (in), 19 A6 (in), 20 A5 (in), 21 A4 (in), 22 A3 (in), 23 A2 (in), 24 A1 (in), 25 A0 (in), 26 ~{CE} (in), 27 GND (power), 28 ~{OE} (in), 29 DQ0 (io), 30 DQ8 (io), 31 DQ1 (io), 32 DQ9 (io), 33 DQ2 (io), 34 DQ10 (io), 35 DQ3 (io), 36 DQ11 (io), 37 VCC (power), 38 DQ4 (io), 39 DQ12 (io), 40 DQ5 (io), 41 DQ13 (io), 42 DQ6 (io), 43 DQ14 (io), 44 DQ7 (io), 45 DQ15/A-1 (io), 46 GND (power), 47 ~{BYTE} (in), 48 A16 (in)

## M29F400B150N5R
designator U?
Single Supply 4 Mbit (x8/x16, Block Erase) Flash Memory; Published: 24-Aug-2001; LatestRevisionDate: 17-Jul-2002; LatestRevisionNote: Re-released for DXP Platform.; DatasheetDocument: Jul-1996; PackageDocument: Jul-1998; PackageReference: TSOP48; Publisher: Altium Limited; Code_JEDEC: MO-142-DD
footprint TSOP48 (Shrink Small Outline, Plastic, Thin; 48 Leads; Body Width 18.4 mm; Pitch 0.5 mm)
pins: 1 A16 (in), 2 ~{BYTE} (in), 3 GND (power), 4 DQ15A-1 (io), 5 DQ7 (io), 6 DQ14 (io), 7 DQ6 (io), 8 DQ13 (io), 9 DQ5 (io), 10 DQ12 (io), 11 DQ4 (io), 12 VCC (power), 13 DQ11 (io), 14 DQ3 (io), 15 DQ10 (io), 16 DQ2 (io), 17 DQ9 (io), 18 DQ1 (io), 19 DQ8 (io), 20 DQ0 (io), 21 ~{OE} (in), 22 GND (power), 23 ~{CE} (in), 24 A0 (in), 25 A1 (in), 26 A2 (in), 27 A3 (in), 28 A4 (in), 29 A5 (in), 30 A6 (in), 31 A7 (in), 32 A17 (in), 33 NC, 34 RY/~{BY} (out), 35 NC, 36 NC, 37 ~{RP} (in), 38 ~{WE} (in), 39 NC, 40 NC, 41 A8 (in), 42 A9 (in), 43 A10 (in), 44 A11 (in), 45 A12 (in), 46 A13 (in), 47 A14 (in), 48 A15 (in)

## M29F400B150N6
designator U?
Single Supply 4 Mbit (x8/x16, Block Erase) Flash Memory; Published: 24-Aug-2001; LatestRevisionDate: 17-Jul-2002; LatestRevisionNote: Re-released for DXP Platform.; DatasheetDocument: Jul-1996; PackageDocument: Jul-1998; PackageReference: TSOP48; Publisher: Altium Limited; Code_JEDEC: MO-142-DD
footprint TSOP48 (Shrink Small Outline, Plastic, Thin; 48 Leads; Body Width 18.4 mm; Pitch 0.5 mm)
pins: 1 A15 (in), 2 A14 (in), 3 A13 (in), 4 A12 (in), 5 A11 (in), 6 A10 (in), 7 A9 (in), 8 A8 (in), 9 NC, 10 NC, 11 ~{WE} (in), 12 ~{RP} (in), 13 NC, 14 NC, 15 R~{B} (out), 16 NC, 17 A17 (in), 18 A7 (in), 19 A6 (in), 20 A5 (in), 21 A4 (in), 22 A3 (in), 23 A2 (in), 24 A1 (in), 25 A0 (in), 26 ~{CE} (in), 27 GND (power), 28 ~{OE} (in), 29 DQ0 (io), 30 DQ8 (io), 31 DQ1 (io), 32 DQ9 (io), 33 DQ2 (io), 34 DQ10 (io), 35 DQ3 (io), 36 DQ11 (io), 37 VCC (power), 38 DQ4 (io), 39 DQ12 (io), 40 DQ5 (io), 41 DQ13 (io), 42 DQ6 (io), 43 DQ14 (io), 44 DQ7 (io), 45 DQ15/A-1 (io), 46 GND (power), 47 ~{BYTE} (in), 48 A16 (in)

## M29F400B150N6R
designator U?
Single Supply 4 Mbit (x8/x16, Block Erase) Flash Memory; Published: 24-Aug-2001; LatestRevisionDate: 17-Jul-2002; LatestRevisionNote: Re-released for DXP Platform.; DatasheetDocument: Jul-1996; PackageDocument: Jul-1998; PackageReference: TSOP48; Publisher: Altium Limited; Code_JEDEC: MO-142-DD
footprint TSOP48 (Shrink Small Outline, Plastic, Thin; 48 Leads; Body Width 18.4 mm; Pitch 0.5 mm)
pins: 1 A16 (in), 2 ~{BYTE} (in), 3 GND (power), 4 DQ15A-1 (io), 5 DQ7 (io), 6 DQ14 (io), 7 DQ6 (io), 8 DQ13 (io), 9 DQ5 (io), 10 DQ12 (io), 11 DQ4 (io), 12 VCC (power), 13 DQ11 (io), 14 DQ3 (io), 15 DQ10 (io), 16 DQ2 (io), 17 DQ9 (io), 18 DQ1 (io), 19 DQ8 (io), 20 DQ0 (io), 21 ~{OE} (in), 22 GND (power), 23 ~{CE} (in), 24 A0 (in), 25 A1 (in), 26 A2 (in), 27 A3 (in), 28 A4 (in), 29 A5 (in), 30 A6 (in), 31 A7 (in), 32 A17 (in), 33 NC, 34 RY/~{BY} (out), 35 NC, 36 NC, 37 ~{RP} (in), 38 ~{WE} (in), 39 NC, 40 NC, 41 A8 (in), 42 A9 (in), 43 A10 (in), 44 A11 (in), 45 A12 (in), 46 A13 (in), 47 A14 (in), 48 A15 (in)

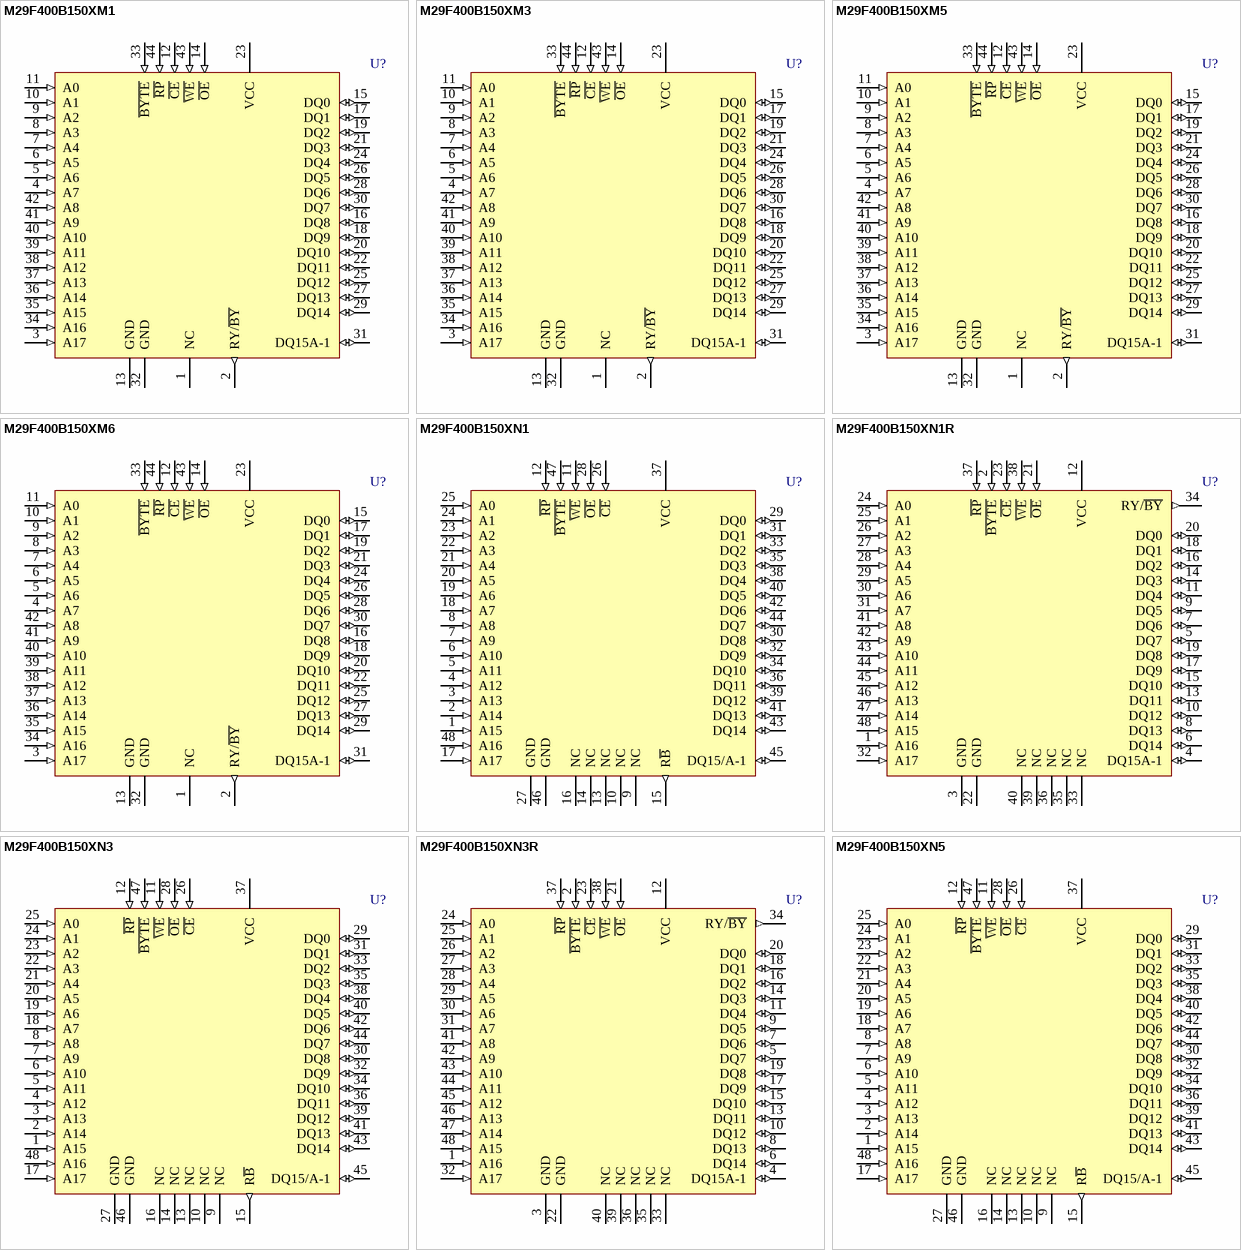
[diagram p67: symbols M29F400B150XM1 to M29F400B150XN5]

## M29F400B150XM1
designator U?
Single Supply 4 Mbit (x8/x16, Block Erase) Flash Memory; Published: 24-Aug-2001; LatestRevisionDate: 17-Jul-2002; LatestRevisionNote: Re-released for DXP Platform.; DatasheetDocument: Jul-1996; PackageReference: SO44; Publisher: Altium Limited
footprint SO44 (Small Outline, Plastic; 44 Leads; Body Width 13.3 mm; Pitch 1.27 mm)
pins: 1 NC, 2 RY/~{BY} (out), 3 A17 (in), 4 A7 (in), 5 A6 (in), 6 A5 (in), 7 A4 (in), 8 A3 (in), 9 A2 (in), 10 A1 (in), 11 A0 (in), 12 ~{CE} (in), 13 GND (power), 14 ~{OE} (in), 15 DQ0 (io), 16 DQ8 (io), 17 DQ1 (io), 18 DQ9 (io), 19 DQ2 (io), 20 DQ10 (io), 21 DQ3 (io), 22 DQ11 (io), 23 VCC (power), 24 DQ4 (io), 25 DQ12 (io), 26 DQ5 (io), 27 DQ13 (io), 28 DQ6 (io), 29 DQ14 (io), 30 DQ7 (io), 31 DQ15A-1 (io), 32 GND (power), 33 ~{BYTE} (in), 34 A16 (in), 35 A15 (in), 36 A14 (in), 37 A13 (in), 38 A12 (in), 39 A11 (in), 40 A10 (in), 41 A9 (in), 42 A8 (in), 43 ~{WE} (in), 44 ~{RP} (in)

## M29F400B150XM3
designator U?
Single Supply 4 Mbit (x8/x16, Block Erase) Flash Memory; Published: 24-Aug-2001; LatestRevisionDate: 17-Jul-2002; LatestRevisionNote: Re-released for DXP Platform.; DatasheetDocument: Jul-1996; PackageReference: SO44; Publisher: Altium Limited
footprint SO44 (Small Outline, Plastic; 44 Leads; Body Width 13.3 mm; Pitch 1.27 mm)
pins: 1 NC, 2 RY/~{BY} (out), 3 A17 (in), 4 A7 (in), 5 A6 (in), 6 A5 (in), 7 A4 (in), 8 A3 (in), 9 A2 (in), 10 A1 (in), 11 A0 (in), 12 ~{CE} (in), 13 GND (power), 14 ~{OE} (in), 15 DQ0 (io), 16 DQ8 (io), 17 DQ1 (io), 18 DQ9 (io), 19 DQ2 (io), 20 DQ10 (io), 21 DQ3 (io), 22 DQ11 (io), 23 VCC (power), 24 DQ4 (io), 25 DQ12 (io), 26 DQ5 (io), 27 DQ13 (io), 28 DQ6 (io), 29 DQ14 (io), 30 DQ7 (io), 31 DQ15A-1 (io), 32 GND (power), 33 ~{BYTE} (in), 34 A16 (in), 35 A15 (in), 36 A14 (in), 37 A13 (in), 38 A12 (in), 39 A11 (in), 40 A10 (in), 41 A9 (in), 42 A8 (in), 43 ~{WE} (in), 44 ~{RP} (in)

## M29F400B150XM5
designator U?
Single Supply 4 Mbit (x8/x16, Block Erase) Flash Memory; Published: 24-Aug-2001; LatestRevisionDate: 17-Jul-2002; LatestRevisionNote: Re-released for DXP Platform.; DatasheetDocument: Jul-1996; PackageReference: SO44; Publisher: Altium Limited
footprint SO44 (Small Outline, Plastic; 44 Leads; Body Width 13.3 mm; Pitch 1.27 mm)
pins: 1 NC, 2 RY/~{BY} (out), 3 A17 (in), 4 A7 (in), 5 A6 (in), 6 A5 (in), 7 A4 (in), 8 A3 (in), 9 A2 (in), 10 A1 (in), 11 A0 (in), 12 ~{CE} (in), 13 GND (power), 14 ~{OE} (in), 15 DQ0 (io), 16 DQ8 (io), 17 DQ1 (io), 18 DQ9 (io), 19 DQ2 (io), 20 DQ10 (io), 21 DQ3 (io), 22 DQ11 (io), 23 VCC (power), 24 DQ4 (io), 25 DQ12 (io), 26 DQ5 (io), 27 DQ13 (io), 28 DQ6 (io), 29 DQ14 (io), 30 DQ7 (io), 31 DQ15A-1 (io), 32 GND (power), 33 ~{BYTE} (in), 34 A16 (in), 35 A15 (in), 36 A14 (in), 37 A13 (in), 38 A12 (in), 39 A11 (in), 40 A10 (in), 41 A9 (in), 42 A8 (in), 43 ~{WE} (in), 44 ~{RP} (in)

## M29F400B150XM6
designator U?
Single Supply 4 Mbit (x8/x16, Block Erase) Flash Memory; Published: 24-Aug-2001; LatestRevisionDate: 17-Jul-2002; LatestRevisionNote: Re-released for DXP Platform.; DatasheetDocument: Jul-1996; PackageReference: SO44; Publisher: Altium Limited
footprint SO44 (Small Outline, Plastic; 44 Leads; Body Width 13.3 mm; Pitch 1.27 mm)
pins: 1 NC, 2 RY/~{BY} (out), 3 A17 (in), 4 A7 (in), 5 A6 (in), 6 A5 (in), 7 A4 (in), 8 A3 (in), 9 A2 (in), 10 A1 (in), 11 A0 (in), 12 ~{CE} (in), 13 GND (power), 14 ~{OE} (in), 15 DQ0 (io), 16 DQ8 (io), 17 DQ1 (io), 18 DQ9 (io), 19 DQ2 (io), 20 DQ10 (io), 21 DQ3 (io), 22 DQ11 (io), 23 VCC (power), 24 DQ4 (io), 25 DQ12 (io), 26 DQ5 (io), 27 DQ13 (io), 28 DQ6 (io), 29 DQ14 (io), 30 DQ7 (io), 31 DQ15A-1 (io), 32 GND (power), 33 ~{BYTE} (in), 34 A16 (in), 35 A15 (in), 36 A14 (in), 37 A13 (in), 38 A12 (in), 39 A11 (in), 40 A10 (in), 41 A9 (in), 42 A8 (in), 43 ~{WE} (in), 44 ~{RP} (in)

## M29F400B150XN1
designator U?
Single Supply 4 Mbit (x8/x16, Block Erase) Flash Memory; Published: 24-Aug-2001; LatestRevisionDate: 17-Jul-2002; LatestRevisionNote: Re-released for DXP Platform.; DatasheetDocument: Jul-1996; PackageDocument: Jul-1998; PackageReference: TSOP48; Publisher: Altium Limited; Code_JEDEC: MO-142-DD
footprint TSOP48 (Shrink Small Outline, Plastic, Thin; 48 Leads; Body Width 18.4 mm; Pitch 0.5 mm)
pins: 1 A15 (in), 2 A14 (in), 3 A13 (in), 4 A12 (in), 5 A11 (in), 6 A10 (in), 7 A9 (in), 8 A8 (in), 9 NC, 10 NC, 11 ~{WE} (in), 12 ~{RP} (in), 13 NC, 14 NC, 15 R~{B} (out), 16 NC, 17 A17 (in), 18 A7 (in), 19 A6 (in), 20 A5 (in), 21 A4 (in), 22 A3 (in), 23 A2 (in), 24 A1 (in), 25 A0 (in), 26 ~{CE} (in), 27 GND (power), 28 ~{OE} (in), 29 DQ0 (io), 30 DQ8 (io), 31 DQ1 (io), 32 DQ9 (io), 33 DQ2 (io), 34 DQ10 (io), 35 DQ3 (io), 36 DQ11 (io), 37 VCC (power), 38 DQ4 (io), 39 DQ12 (io), 40 DQ5 (io), 41 DQ13 (io), 42 DQ6 (io), 43 DQ14 (io), 44 DQ7 (io), 45 DQ15/A-1 (io), 46 GND (power), 47 ~{BYTE} (in), 48 A16 (in)

## M29F400B150XN1R
designator U?
Single Supply 4 Mbit (x8/x16, Block Erase) Flash Memory; Published: 24-Aug-2001; LatestRevisionDate: 17-Jul-2002; LatestRevisionNote: Re-released for DXP Platform.; DatasheetDocument: Jul-1996; PackageDocument: Jul-1998; PackageReference: TSOP48; Publisher: Altium Limited; Code_JEDEC: MO-142-DD
footprint TSOP48 (Shrink Small Outline, Plastic, Thin; 48 Leads; Body Width 18.4 mm; Pitch 0.5 mm)
pins: 1 A16 (in), 2 ~{BYTE} (in), 3 GND (power), 4 DQ15A-1 (io), 5 DQ7 (io), 6 DQ14 (io), 7 DQ6 (io), 8 DQ13 (io), 9 DQ5 (io), 10 DQ12 (io), 11 DQ4 (io), 12 VCC (power), 13 DQ11 (io), 14 DQ3 (io), 15 DQ10 (io), 16 DQ2 (io), 17 DQ9 (io), 18 DQ1 (io), 19 DQ8 (io), 20 DQ0 (io), 21 ~{OE} (in), 22 GND (power), 23 ~{CE} (in), 24 A0 (in), 25 A1 (in), 26 A2 (in), 27 A3 (in), 28 A4 (in), 29 A5 (in), 30 A6 (in), 31 A7 (in), 32 A17 (in), 33 NC, 34 RY/~{BY} (out), 35 NC, 36 NC, 37 ~{RP} (in), 38 ~{WE} (in), 39 NC, 40 NC, 41 A8 (in), 42 A9 (in), 43 A10 (in), 44 A11 (in), 45 A12 (in), 46 A13 (in), 47 A14 (in), 48 A15 (in)

## M29F400B150XN3
designator U?
Single Supply 4 Mbit (x8/x16, Block Erase) Flash Memory; Published: 24-Aug-2001; LatestRevisionDate: 17-Jul-2002; LatestRevisionNote: Re-released for DXP Platform.; DatasheetDocument: Jul-1996; PackageDocument: Jul-1998; PackageReference: TSOP48; Publisher: Altium Limited; Code_JEDEC: MO-142-DD
footprint TSOP48 (Shrink Small Outline, Plastic, Thin; 48 Leads; Body Width 18.4 mm; Pitch 0.5 mm)
pins: 1 A15 (in), 2 A14 (in), 3 A13 (in), 4 A12 (in), 5 A11 (in), 6 A10 (in), 7 A9 (in), 8 A8 (in), 9 NC, 10 NC, 11 ~{WE} (in), 12 ~{RP} (in), 13 NC, 14 NC, 15 R~{B} (out), 16 NC, 17 A17 (in), 18 A7 (in), 19 A6 (in), 20 A5 (in), 21 A4 (in), 22 A3 (in), 23 A2 (in), 24 A1 (in), 25 A0 (in), 26 ~{CE} (in), 27 GND (power), 28 ~{OE} (in), 29 DQ0 (io), 30 DQ8 (io), 31 DQ1 (io), 32 DQ9 (io), 33 DQ2 (io), 34 DQ10 (io), 35 DQ3 (io), 36 DQ11 (io), 37 VCC (power), 38 DQ4 (io), 39 DQ12 (io), 40 DQ5 (io), 41 DQ13 (io), 42 DQ6 (io), 43 DQ14 (io), 44 DQ7 (io), 45 DQ15/A-1 (io), 46 GND (power), 47 ~{BYTE} (in), 48 A16 (in)

## M29F400B150XN3R
designator U?
Single Supply 4 Mbit (x8/x16, Block Erase) Flash Memory; Published: 24-Aug-2001; LatestRevisionDate: 17-Jul-2002; LatestRevisionNote: Re-released for DXP Platform.; DatasheetDocument: Jul-1996; PackageDocument: Jul-1998; PackageReference: TSOP48; Publisher: Altium Limited; Code_JEDEC: MO-142-DD
footprint TSOP48 (Shrink Small Outline, Plastic, Thin; 48 Leads; Body Width 18.4 mm; Pitch 0.5 mm)
pins: 1 A16 (in), 2 ~{BYTE} (in), 3 GND (power), 4 DQ15A-1 (io), 5 DQ7 (io), 6 DQ14 (io), 7 DQ6 (io), 8 DQ13 (io), 9 DQ5 (io), 10 DQ12 (io), 11 DQ4 (io), 12 VCC (power), 13 DQ11 (io), 14 DQ3 (io), 15 DQ10 (io), 16 DQ2 (io), 17 DQ9 (io), 18 DQ1 (io), 19 DQ8 (io), 20 DQ0 (io), 21 ~{OE} (in), 22 GND (power), 23 ~{CE} (in), 24 A0 (in), 25 A1 (in), 26 A2 (in), 27 A3 (in), 28 A4 (in), 29 A5 (in), 30 A6 (in), 31 A7 (in), 32 A17 (in), 33 NC, 34 RY/~{BY} (out), 35 NC, 36 NC, 37 ~{RP} (in), 38 ~{WE} (in), 39 NC, 40 NC, 41 A8 (in), 42 A9 (in), 43 A10 (in), 44 A11 (in), 45 A12 (in), 46 A13 (in), 47 A14 (in), 48 A15 (in)

## M29F400B150XN5
designator U?
Single Supply 4 Mbit (x8/x16, Block Erase) Flash Memory; Published: 24-Aug-2001; LatestRevisionDate: 17-Jul-2002; LatestRevisionNote: Re-released for DXP Platform.; DatasheetDocument: Jul-1996; PackageDocument: Jul-1998; PackageReference: TSOP48; Publisher: Altium Limited; Code_JEDEC: MO-142-DD
footprint TSOP48 (Shrink Small Outline, Plastic, Thin; 48 Leads; Body Width 18.4 mm; Pitch 0.5 mm)
pins: 1 A15 (in), 2 A14 (in), 3 A13 (in), 4 A12 (in), 5 A11 (in), 6 A10 (in), 7 A9 (in), 8 A8 (in), 9 NC, 10 NC, 11 ~{WE} (in), 12 ~{RP} (in), 13 NC, 14 NC, 15 R~{B} (out), 16 NC, 17 A17 (in), 18 A7 (in), 19 A6 (in), 20 A5 (in), 21 A4 (in), 22 A3 (in), 23 A2 (in), 24 A1 (in), 25 A0 (in), 26 ~{CE} (in), 27 GND (power), 28 ~{OE} (in), 29 DQ0 (io), 30 DQ8 (io), 31 DQ1 (io), 32 DQ9 (io), 33 DQ2 (io), 34 DQ10 (io), 35 DQ3 (io), 36 DQ11 (io), 37 VCC (power), 38 DQ4 (io), 39 DQ12 (io), 40 DQ5 (io), 41 DQ13 (io), 42 DQ6 (io), 43 DQ14 (io), 44 DQ7 (io), 45 DQ15/A-1 (io), 46 GND (power), 47 ~{BYTE} (in), 48 A16 (in)

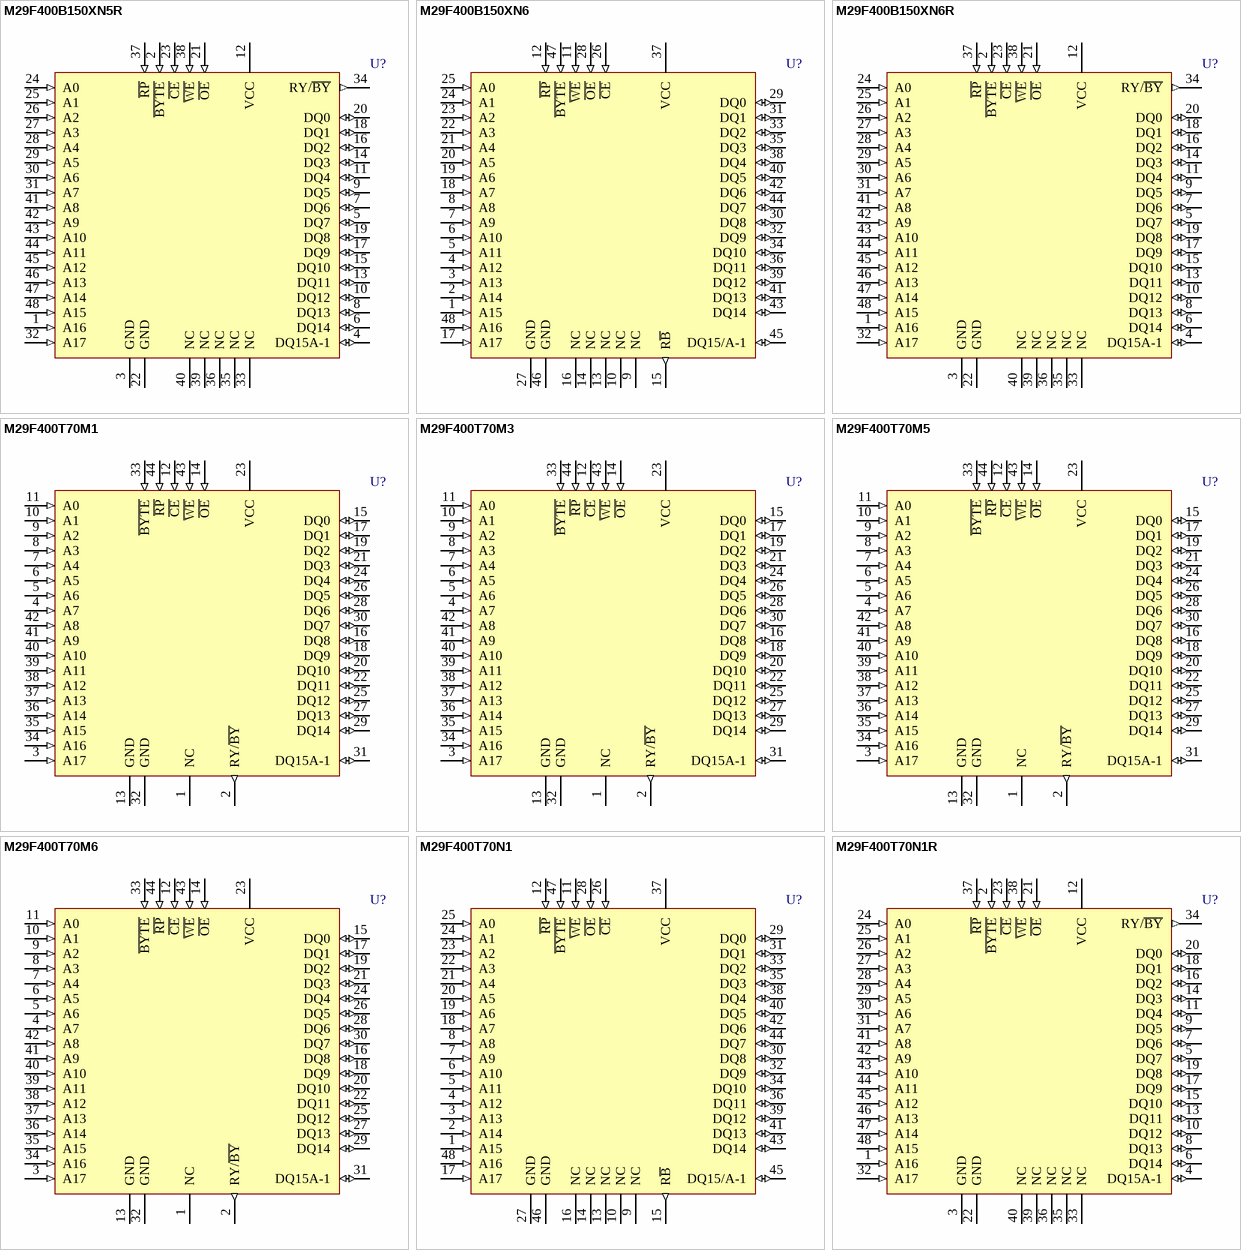
[diagram p68: symbols M29F400B150XN5R to M29F400T70N1R]

## M29F400B150XN5R
designator U?
Single Supply 4 Mbit (x8/x16, Block Erase) Flash Memory; Published: 24-Aug-2001; LatestRevisionDate: 17-Jul-2002; LatestRevisionNote: Re-released for DXP Platform.; DatasheetDocument: Jul-1996; PackageDocument: Jul-1998; PackageReference: TSOP48; Publisher: Altium Limited; Code_JEDEC: MO-142-DD
footprint TSOP48 (Shrink Small Outline, Plastic, Thin; 48 Leads; Body Width 18.4 mm; Pitch 0.5 mm)
pins: 1 A16 (in), 2 ~{BYTE} (in), 3 GND (power), 4 DQ15A-1 (io), 5 DQ7 (io), 6 DQ14 (io), 7 DQ6 (io), 8 DQ13 (io), 9 DQ5 (io), 10 DQ12 (io), 11 DQ4 (io), 12 VCC (power), 13 DQ11 (io), 14 DQ3 (io), 15 DQ10 (io), 16 DQ2 (io), 17 DQ9 (io), 18 DQ1 (io), 19 DQ8 (io), 20 DQ0 (io), 21 ~{OE} (in), 22 GND (power), 23 ~{CE} (in), 24 A0 (in), 25 A1 (in), 26 A2 (in), 27 A3 (in), 28 A4 (in), 29 A5 (in), 30 A6 (in), 31 A7 (in), 32 A17 (in), 33 NC, 34 RY/~{BY} (out), 35 NC, 36 NC, 37 ~{RP} (in), 38 ~{WE} (in), 39 NC, 40 NC, 41 A8 (in), 42 A9 (in), 43 A10 (in), 44 A11 (in), 45 A12 (in), 46 A13 (in), 47 A14 (in), 48 A15 (in)

## M29F400B150XN6
designator U?
Single Supply 4 Mbit (x8/x16, Block Erase) Flash Memory; Published: 24-Aug-2001; LatestRevisionDate: 17-Jul-2002; LatestRevisionNote: Re-released for DXP Platform.; DatasheetDocument: Jul-1996; PackageDocument: Jul-1998; PackageReference: TSOP48; Publisher: Altium Limited; Code_JEDEC: MO-142-DD
footprint TSOP48 (Shrink Small Outline, Plastic, Thin; 48 Leads; Body Width 18.4 mm; Pitch 0.5 mm)
pins: 1 A15 (in), 2 A14 (in), 3 A13 (in), 4 A12 (in), 5 A11 (in), 6 A10 (in), 7 A9 (in), 8 A8 (in), 9 NC, 10 NC, 11 ~{WE} (in), 12 ~{RP} (in), 13 NC, 14 NC, 15 R~{B} (out), 16 NC, 17 A17 (in), 18 A7 (in), 19 A6 (in), 20 A5 (in), 21 A4 (in), 22 A3 (in), 23 A2 (in), 24 A1 (in), 25 A0 (in), 26 ~{CE} (in), 27 GND (power), 28 ~{OE} (in), 29 DQ0 (io), 30 DQ8 (io), 31 DQ1 (io), 32 DQ9 (io), 33 DQ2 (io), 34 DQ10 (io), 35 DQ3 (io), 36 DQ11 (io), 37 VCC (power), 38 DQ4 (io), 39 DQ12 (io), 40 DQ5 (io), 41 DQ13 (io), 42 DQ6 (io), 43 DQ14 (io), 44 DQ7 (io), 45 DQ15/A-1 (io), 46 GND (power), 47 ~{BYTE} (in), 48 A16 (in)

## M29F400B150XN6R
designator U?
Single Supply 4 Mbit (x8/x16, Block Erase) Flash Memory; Published: 24-Aug-2001; LatestRevisionDate: 17-Jul-2002; LatestRevisionNote: Re-released for DXP Platform.; DatasheetDocument: Jul-1996; PackageDocument: Jul-1998; PackageReference: TSOP48; Publisher: Altium Limited; Code_JEDEC: MO-142-DD
footprint TSOP48 (Shrink Small Outline, Plastic, Thin; 48 Leads; Body Width 18.4 mm; Pitch 0.5 mm)
pins: 1 A16 (in), 2 ~{BYTE} (in), 3 GND (power), 4 DQ15A-1 (io), 5 DQ7 (io), 6 DQ14 (io), 7 DQ6 (io), 8 DQ13 (io), 9 DQ5 (io), 10 DQ12 (io), 11 DQ4 (io), 12 VCC (power), 13 DQ11 (io), 14 DQ3 (io), 15 DQ10 (io), 16 DQ2 (io), 17 DQ9 (io), 18 DQ1 (io), 19 DQ8 (io), 20 DQ0 (io), 21 ~{OE} (in), 22 GND (power), 23 ~{CE} (in), 24 A0 (in), 25 A1 (in), 26 A2 (in), 27 A3 (in), 28 A4 (in), 29 A5 (in), 30 A6 (in), 31 A7 (in), 32 A17 (in), 33 NC, 34 RY/~{BY} (out), 35 NC, 36 NC, 37 ~{RP} (in), 38 ~{WE} (in), 39 NC, 40 NC, 41 A8 (in), 42 A9 (in), 43 A10 (in), 44 A11 (in), 45 A12 (in), 46 A13 (in), 47 A14 (in), 48 A15 (in)

## M29F400T70M1
designator U?
4 Mbit (512Kb x8 or 256Kb x16, Boot Block) Single Supply Flash Memory; Published: 24-Aug-2001; LatestRevisionDate: 17-Jul-2002; LatestRevisionNote: Re-released for DXP Platform.; DatasheetDocument: Nov-1999; PackageReference: SO44; Publisher: Altium Limited
footprint SO44 (Small Outline, Plastic; 44 Leads; Body Width 13.3 mm; Pitch 1.27 mm)
pins: 1 NC, 2 RY/~{BY} (out), 3 A17 (in), 4 A7 (in), 5 A6 (in), 6 A5 (in), 7 A4 (in), 8 A3 (in), 9 A2 (in), 10 A1 (in), 11 A0 (in), 12 ~{CE} (in), 13 GND (power), 14 ~{OE} (in), 15 DQ0 (io), 16 DQ8 (io), 17 DQ1 (io), 18 DQ9 (io), 19 DQ2 (io), 20 DQ10 (io), 21 DQ3 (io), 22 DQ11 (io), 23 VCC (power), 24 DQ4 (io), 25 DQ12 (io), 26 DQ5 (io), 27 DQ13 (io), 28 DQ6 (io), 29 DQ14 (io), 30 DQ7 (io), 31 DQ15A-1 (io), 32 GND (power), 33 ~{BYTE} (in), 34 A16 (in), 35 A15 (in), 36 A14 (in), 37 A13 (in), 38 A12 (in), 39 A11 (in), 40 A10 (in), 41 A9 (in), 42 A8 (in), 43 ~{WE} (in), 44 ~{RP} (in)

## M29F400T70M3
designator U?
4 Mbit (512Kb x8 or 256Kb x16, Boot Block) Single Supply Flash Memory; Published: 24-Aug-2001; LatestRevisionDate: 17-Jul-2002; LatestRevisionNote: Re-released for DXP Platform.; DatasheetDocument: Nov-1999; PackageReference: SO44; Publisher: Altium Limited
footprint SO44 (Small Outline, Plastic; 44 Leads; Body Width 13.3 mm; Pitch 1.27 mm)
pins: 1 NC, 2 RY/~{BY} (out), 3 A17 (in), 4 A7 (in), 5 A6 (in), 6 A5 (in), 7 A4 (in), 8 A3 (in), 9 A2 (in), 10 A1 (in), 11 A0 (in), 12 ~{CE} (in), 13 GND (power), 14 ~{OE} (in), 15 DQ0 (io), 16 DQ8 (io), 17 DQ1 (io), 18 DQ9 (io), 19 DQ2 (io), 20 DQ10 (io), 21 DQ3 (io), 22 DQ11 (io), 23 VCC (power), 24 DQ4 (io), 25 DQ12 (io), 26 DQ5 (io), 27 DQ13 (io), 28 DQ6 (io), 29 DQ14 (io), 30 DQ7 (io), 31 DQ15A-1 (io), 32 GND (power), 33 ~{BYTE} (in), 34 A16 (in), 35 A15 (in), 36 A14 (in), 37 A13 (in), 38 A12 (in), 39 A11 (in), 40 A10 (in), 41 A9 (in), 42 A8 (in), 43 ~{WE} (in), 44 ~{RP} (in)